# Altium integrated library AMCC PowerPC 405.IntLib: 46 symbols (part 6 of 12)
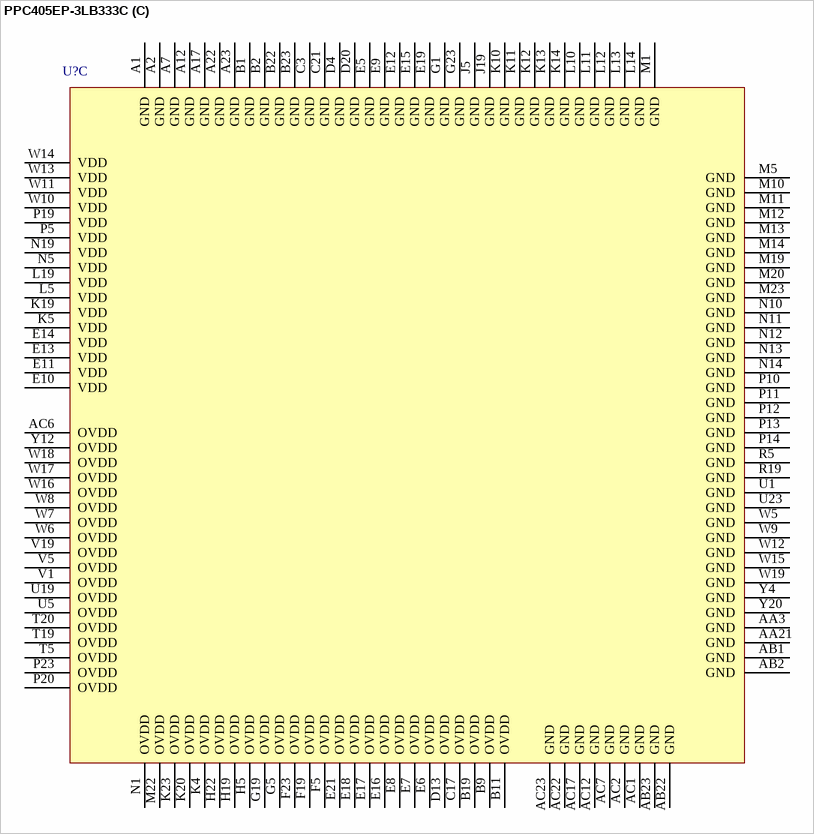
[diagram p123: symbol PPC405EP-3LB333C]

## PPC405EP-3LB333C
designator U?
PowerPC 405EP Embedded Processor, 333MHz, 31mm, 385 Ball E-PBGA, Pb-Free; Published: 6-Oct-2005; LatestRevisionDate: 13-Apr-2006; LatestRevisionNote: IPC-7351 Footprint Added.; DatasheetVersion: rev1.02, Jan-2005; PackageVersion: Jan-2005; PackageReference: E-PBGA385; Publisher: Altium Limited; PackageDescription: 385-Ball Enhanced Plastic Ball Grid Array; ComponentLink1Description: Manufacturer Link; ComponentLink1URL: http://www.amcc.com/; ComponentLink2Description: Datasheet; ComponentLink2URL: https://www.amcc.com/MyAMCC/retrieveDocument/PowerPC/405EP/PPC405EP_DS2003__v1_02.pdf
footprint E-PBGA385 (BGA, 385-Leads, Body 31x31mm, Pitch 1.27mm)
3D model PPC405EP-E-PBGA385 (385-Ball Enhanced Plastic Ball Grid Array)
part A pins: A4 GPIO15[PerAddr04] (io), A5 GPIO16[PerAddr05] (io), A9 GPIO00[~{PerBLas}t] (io), A18 PCIC0/~{BE}0 (io), A19 PCIAD07 (io), A20 PCIAD10 (io), A21 PCIIDSel (in), AA1 TDI (in), AA2 TDO (out), AA7 DQM1 (out), AA15 ~{RA}S (out), AA23 GPIO01[TS1E] (io), AB4 IICSCL (io), AB13 ~{BankSel}0 (out), AB14 ClkEn0 (out), AB18 SysClk (in), AB20 ~{SysRese}t (io), AB21 AGND (in), AC3 TMS (in), AC10 DQM0 (out), AC13 ~{BankSel}1 (out), AC14 ClkEn1 (out), AC15 ~{WE} (out), AC16 BA1 (out), AC20 AVDD (in), B4 GPIO14[PerAddr03] (io), B16 PCIAD00 (io), B17 PCIAD02 (io), B18 PCIAD04 (io), B20 PCIAD11 (io), B21 PCIClk (in), C2 GPIO10[~{PerCS}1] (io), C16 PCIAD01 (io), C18 PCIAD06 (io), C19 PCIAD09 (io), C20 PCIAD12 (io), C22 ~{Hal}t (in), C23 PCIAD13 (io), D3 GPIO12[~{PerCS}3] (io), D5 GPIO13[~{PerCS}4] (io), D15 ~{PCIINT}[~{PerW}E] (out), D16 PCIAD03 (io), D17 PCIAD05 (io), D18 PCIAD08 (io), D19 PCIC1/~{BE}1 (io), D21 PCIAD14 (io), D22 PCIAD15 (io), D23 ~{PCIGnt}0/~{Re}q (out), E3 GPIO11[~{PerCS}2] (io), E20 ~{PCIReq0}/~{Gn}t (in), E22 ~{PCIReq}2 (in), E23 ~{PCIGnt}1 (out), F20 ~{PCIReq}1 (in), F21 ~{PCIGnt}2 (out), F22 ~{PCIFram}e (io), G20 ~{PCIRese}t (out), G21 ~{PCITRD}Y (io), G22 ~{PCISto}p (io), H2 ~{TRS}T (in), H20 ~{PCIIRD}Y (io), H21 ~{PCIDevSe}l (io), H23 ~{PCIPEr}r (io), J1 GPIO27[~{UART0_DT}R] (io), J2 GPIO28[UART1_Rx] (io), J3 GPIO29[UART1_Tx] (io), J20 ~{PCISEr}r (io), J21 PCIParity (io), J22 PCIAD16 (io), J23 PCIAD17 (io), K1 GPIO25[~{UART0_DS}R] (io), K21 PCIAD18 (io), K22 PCIAD19 (io), L4 GPIO26[~{UART0_R}I] (io), L20 PCIC2/~{BE}2 (io), L21 PCIAD20 (io), L22 PCIAD21 (io), L23 PCIAD22 (io), M4 GPIO24[~{UART0_DC}D] (io), M21 PCIAD23 (io), N2 ~{UART0_RT}S (out), N20 PCIC3/~{BE}3 (io), N21 PCIAD26 (io), N22 PCIAD25 (io), N23 PCIAD24 (io), P4 UART0_Tx (out), P21 PCIAD28 (io), P22 PCIAD27 (io), R20 GPIO22[IRQ5] (io), R21 PCIAD31 (io), R22 PCIAD30 (io), R23 PCIAD29 (io), T1 UART0_Rx (in), T3 ~{UART0_CT}S (in), T21 GPIO09[TrcClk] (io), T22 GPIO21[IRQ4] (io), T23 GPIO23[IRQ6] (io), U2 DQM3 (out), U20 GPIO05[TS3] (io), U21 GPIO07[TS5] (io), U22 GPIO08[TS6] (io), V20 ~{TestE}n (in), V21 GPIO19[IRQ2] (io), V22 GPIO20[IRQ3] (io), V23 GPIO06[TS4] (io), W4 DQM2 (out), W20 GPIO30[RejectPkt0] (io), W21 GPIO04[TS2O] (io), W22 GPIO17[IRQ0] (io), W23 GPIO18[IRQ1] (io), Y1 IICSDA (io), Y2 TCK (in), Y14 ~{CA}S (out), Y15 BA0 (out), Y17 SysErr (out), Y21 GPIO31[RejectPkt1] (io), Y22 GPIO02[TS2E] (io), Y23 GPIO03[TS1O] (io)
part B pins: A3 ~{ExtRese}t (out), A6 PerAddr08 (io), A8 PerAddr15 (io), A10 PerAddr21 (io), A11 PerAddr23 (io), A13 PerAddr27 (io), A14 PerAddr30 (io), A15 EMC0Tx1D2 (out), A16 EMC0Tx1En (out), AA4 MemData19 (io), AA5 EMCMDIO (io), AA6 MemData14 (io), AA8 MemData10 (io), AA9 PHY0CrS0 (in), AA10 MemData05 (io), AA11 MemData03 (io), AA12 MemData01 (io), AA13 PHY0Rx0D3 (in), AA14 MemClkOut0 (out), AA16 PHY0Rx0D2 (in), AA17 MemAddr03 (out), AA18 MemAddr05 (out), AA19 MemAddr09 (out), AA20 MemAddr11 (out), AA22 PHY0Rx0D1 (in), AB3 MemData20 (io), AB5 MemData16 (io), AB6 MemData12 (io), AB7 MemData11 (io), AB8 PHY0Col0 (in), AB9 MemData07 (io), AB10 PHY0Rx0Clk (in), AB11 PHY0Rx0Err (in), AB12 MemData00 (io), AB15 MemAddr00 (out), AB16 MemAddr01 (out), AB17 MemAddr02 (out), AB19 MemAddr07 (out), AC4 MemData17 (io), AC5 MemData15 (io), AC8 MemData08 (io), AC9 MemData06 (io), AC11 MemData02 (io), AC18 MemAddr04 (out), AC19 MemAddr06 (out), AC21 MemAddr12 (out), B3 PerReady (in), B5 PHY0CrS1 (in), B6 PerAddr07 (io), B7 PerAddr11 (io), B8 PerAddr13 (io), B10 PerAddr19 (io), B12 PerAddr25 (io), B13 PerAddr28 (io), B14 PerAddr31 (io), B15 EMC0Tx1D0 (out), C1 PHY0Rx1Err (in), C4 PerClk (out), C5 PHY0Col1 (in), C6 PHY0Tx1Clk (in), C7 PerAddr10 (io), C8 PerAddr12 (io), C9 PerAddr16 (io), C10 PerAddr18 (io), C11 PerAddr22 (io), C12 PerAddr26 (io), C13 PerAddr29 (io), C14 EMC0Tx1D1 (out), C15 EMC0Tx1Err (out), D1 PerData15 (io), D2 PerR/~{W} (out), D6 PHY0Rx1DV (in), D7 PerAddr06 (io), D8 PerAddr09 (io), D9 PerAddr14 (io), D10 PerAddr17 (io), D11 PerAddr20 (io), D12 PerAddr24 (io), D14 EMC0Tx1D3 (out), E1 ~{PerWBE}1 (out), E2 PHY0Rx1Clk (in), E4 ~{PerCS}0 (out), F1 PerData14 (io), F2 PHY0Rx1D3 (in), F3 ~{PerWBE}0 (out), F4 ~{PerO}E (out), G2 PerData11 (io), G3 PHY0Rx1D2 (in), G4 PerData12 (io), H1 PerData09 (io), H3 PHY0Rx1D1 (in), H4 PerData13 (io), J4 PerData10 (io), K2 PerData07 (io), K3 PerData08 (io), L1 EMC0Tx0D2 (out), L2 PerData05 (io), L3 PerData06 (io), M2 PerData03 (io), M3 PerData04 (io), N3 EMC0Tx0D1 (out), N4 PerData01 (io), P1 PerData02 (io), P2 PerData00 (io), P3 EMC0Tx0D3 (out), R1 PHY0Rx1D0 (in), R2 MemData31 (io), R3 MemData30 (io), R4 MemData29 (io), T2 MemData28 (io), T4 MemData27 (io), U3 EMC0Tx0D0 (out), U4 MemData25 (io), V2 MemData26 (io), V3 EMC0Tx0Err (out), V4 MemData23 (io), W1 EMC0Tx0En (out), W2 MemData24 (io), W3 MemData22 (io), Y3 MemData21 (io), Y5 MemData18 (io), Y6 EMCMDClk (out), Y7 MemData13 (io), Y8 PHY0Tx0Clk (in), Y9 MemData09 (io), Y10 PHY0Rx0DV (in), Y11 MemData04 (io), Y13 MemClkOut1 (out), Y16 PHY0Rx0D0 (in), Y18 MemAddr08 (out), Y19 MemAddr10 (out)
part C pins: A1 GND (power), A2 GND (power), A7 GND (power), A12 GND (power), A17 GND (power), A22 GND (power), A23 GND (power), AA3 GND (power), AA21 GND (power), AB1 GND (power), AB2 GND (power), AB22 GND (power), AB23 GND (power), AC1 GND (power), AC2 GND (power), AC6 OVDD (power), AC7 GND (power), AC12 GND (power), AC17 GND (power), AC22 GND (power), AC23 GND (power), B1 GND (power), B2 GND (power), B9 OVDD (power), B11 OVDD (power), B19 OVDD (power), B22 GND (power), B23 GND (power), C3 GND (power), C17 OVDD (power), C21 GND (power), D4 GND (power), D13 OVDD (power), D20 GND (power), E5 GND (power), E6 OVDD (power), E7 OVDD (power), E8 OVDD (power), E9 GND (power), E10 VDD (power), E11 VDD (power), E12 GND (power), E13 VDD (power), E14 VDD (power), E15 GND (power), E16 OVDD (power), E17 OVDD (power), E18 OVDD (power), E19 GND (power), E21 OVDD (power), F5 OVDD (power), F19 OVDD (power), F23 OVDD (power), G1 GND (power), G5 OVDD (power), G19 OVDD (power), G23 GND (power), H5 OVDD (power), H19 OVDD (power), H22 OVDD (power), J5 GND (power), J19 GND (power), K4 OVDD (power), K5 VDD (power), K10 GND (power) "Thermal Balls", K11 GND (power) "Thermal Balls", K12 GND (power) "Thermal Balls", K13 GND (power) "Thermal Balls", K14 GND (power) "Thermal Balls", K19 VDD (power), K20 OVDD (power), K23 OVDD (power), L5 VDD (power), L10 GND (power) "Thermal Balls", L11 GND (power) "Thermal Balls", L12 GND (power) "Thermal Balls", L13 GND (power) "Thermal Balls", L14 GND (power) "Thermal Balls", L19 VDD (power), M1 GND (power), M5 GND (power), M10 GND (power) "Thermal Balls", M11 GND (power) "Thermal Balls", M12 GND (power) "Thermal Balls", M13 GND (power) "Thermal Balls", M14 GND (power) "Thermal Balls", M19 GND (power), M20 GND (power), M22 OVDD (power), M23 GND (power), N1 OVDD (power), N5 VDD (power), N10 GND (power) "Thermal Balls", N11 GND (power) "Thermal Balls", N12 GND (power) "Thermal Balls", N13 GND (power) "Thermal Balls", N14 GND (power) "Thermal Balls", N19 VDD (power), P5 VDD (power), P10 GND (power) "Thermal Balls", P11 GND (power) "Thermal Balls", P12 GND (power) "Thermal Balls", P13 GND (power) "Thermal Balls", P14 GND (power) "Thermal Balls", P19 VDD (power), P20 OVDD (power), P23 OVDD (power), R5 GND (power), R19 GND (power), T5 OVDD (power), T19 OVDD (power), T20 OVDD (power), U1 GND (power), U5 OVDD (power), U19 OVDD (power), U23 GND (power), V1 OVDD (power), V5 OVDD (power), V19 OVDD (power), W5 GND (power), W6 OVDD (power), W7 OVDD (power), W8 OVDD (power), W9 GND (power), W10 VDD (power), W11 VDD (power), W12 GND (power), W13 VDD (power), W14 VDD (power), W15 GND (power), W16 OVDD (power), W17 OVDD (power), W18 OVDD (power), W19 GND (power), Y4 GND (power), Y12 OVDD (power), Y20 GND (power)

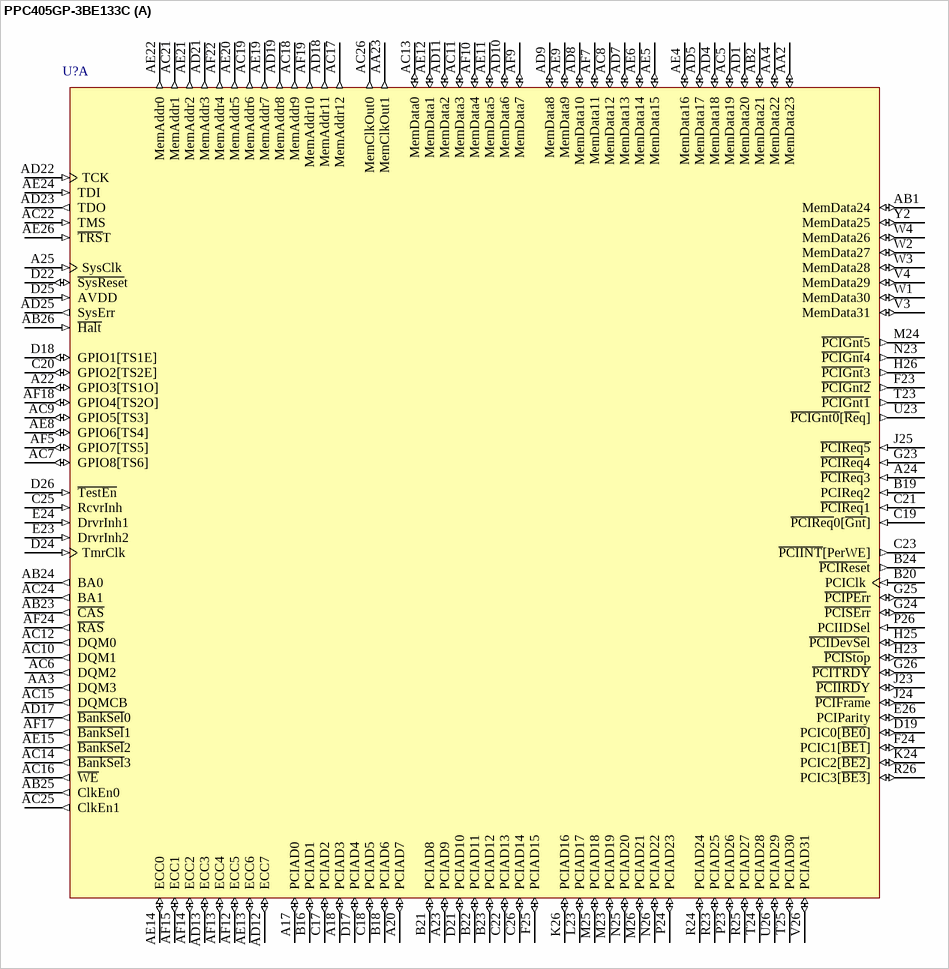
[diagram p41: symbol PPC405GP-3BE133C]

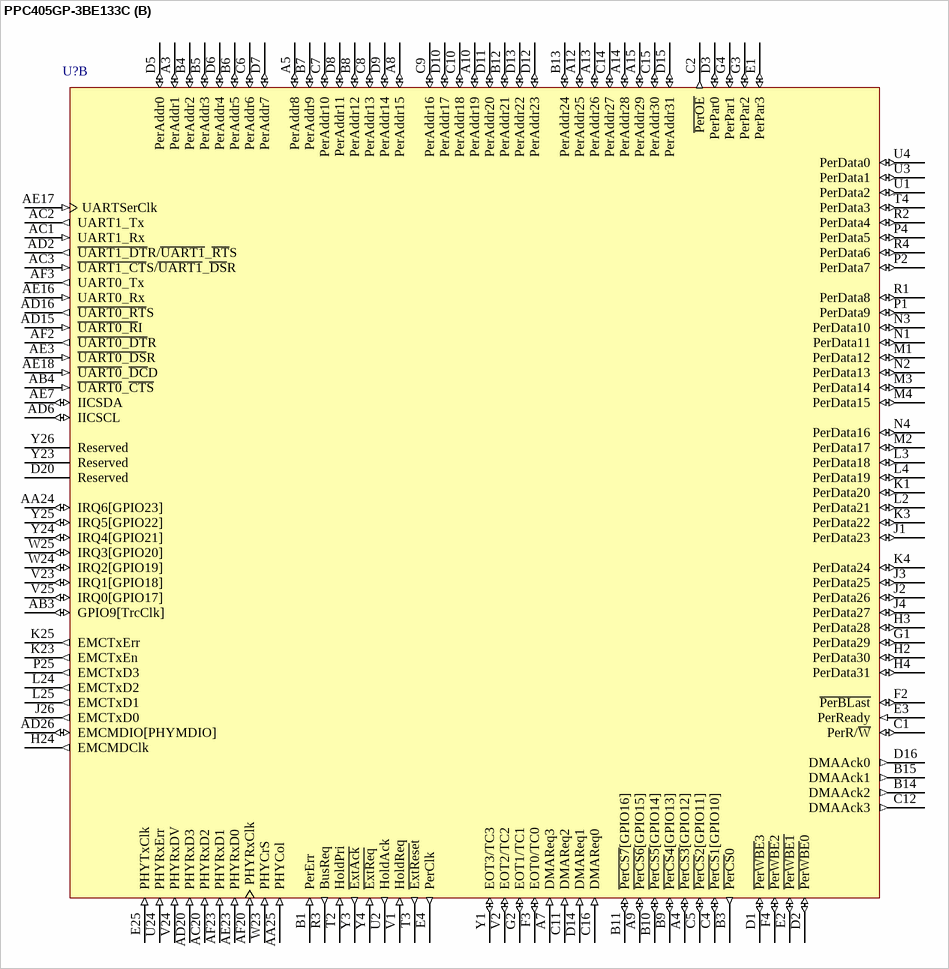
[diagram p42: symbol PPC405GP-3BE133C]

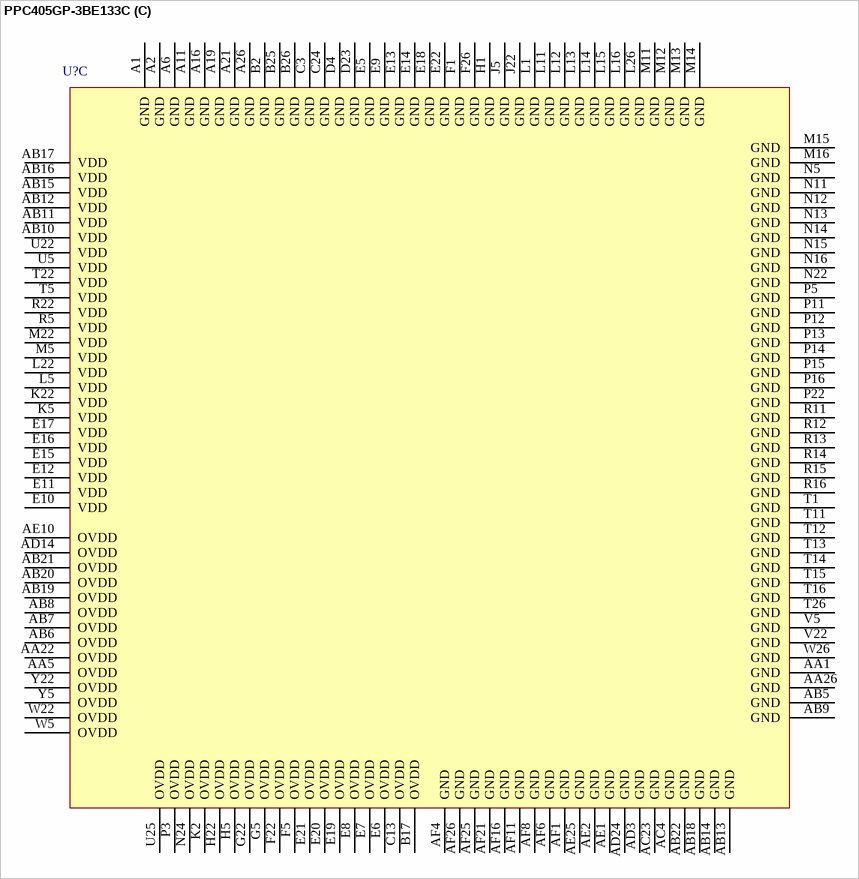
[diagram p43: symbol PPC405GP-3BE133C]

## PPC405GP-3BE133C
designator U?
PowerPC 405GP Embedded Processor, 133MHz, 35mm, 456 Ball E-PBGA; Published: 6-Oct-2005; LatestRevisionDate: 13-Apr-2006; LatestRevisionNote: IPC-7351 Footprint Added.; DatasheetVersion: rev2.01, Jan-2005; PackageVersion: May-2006; PackageReference: E-PBGA456_75; Publisher: Altium Limited; PackageDescription: 456-Ball Enhanced Plastic Ball Grid Array (E-PBGA); ComponentLink1Description: Manufacturer Link; ComponentLink1URL: http://www.amcc.com/; ComponentLink2Description: Datasheet; ComponentLink2URL: https://www.amcc.com/MyAMCC/retrieveDocument/PowerPC/405GP_GPR/PPC405GP_DS2004__v2_01.pdf
footprint E-PBGA456_75 (BGA, 456-Leads, Body 35x35mm, Pitch 1.27mm)
3D model PPC405GP-E-PBGA456_75 (456-Ball Enhanced Plastic Ball Grid Array (E-PBGA))
part A pins: A17 PCIAD0 (io), A18 PCIAD3 (io), A20 PCIAD7 (io), A22 GPIO3[TS1O] (io), A23 PCIAD9 (io), A24 ~{PCIReq}3 (in), A25 SysClk (in), AA2 MemData23 (io), AA3 DQM3 (out), AA4 MemData22 (io), AA23 MemClkOut1 (out), AB1 MemData24 (io), AB2 MemData21 (io), AB23 ~{CAS} (out), AB24 BA0 (out), AB25 ClkEn0 (out), AB26 ~{Halt} (in), AC5 MemData19 (io), AC6 DQM2 (out), AC7 GPIO8[TS6] (io), AC8 MemData12 (io), AC9 GPIO5[TS3] (io), AC10 DQM1 (out), AC11 MemData3 (io), AC12 DQM0 (out), AC13 MemData0 (io), AC14 ~{BankSel}3 (out), AC15 DQMCB (out), AC16 ~{WE} (out), AC17 MemAddr12 (out), AC18 MemAddr9 (out), AC19 MemAddr6 (out), AC21 MemAddr1 (out), AC22 TMS (in), AC24 BA1 (out), AC25 ClkEn1 (out), AC26 MemClkOut0 (out), AD1 MemData20 (io), AD4 MemData18 (io), AD5 MemData17 (io), AD7 MemData13 (io), AD8 MemData10 (io), AD9 MemData8 (io), AD10 MemData6 (io), AD11 MemData2 (io), AD12 ECC7 (io), AD13 ECC3 (io), AD17 ~{BankSel}0 (out), AD18 MemAddr11 (out), AD19 MemAddr8 (out), AD21 MemAddr3 (out), AD22 TCK (in), AD23 TDO (out), AD25 SysErr (out), AE4 MemData16 (io), AE5 MemData15 (io), AE6 MemData14 (io), AE8 GPIO6[TS4] (io), AE9 MemData9 (io), AE11 MemData5 (io), AE12 MemData1 (io), AE13 ECC6 (io), AE14 ECC0 (io), AE15 ~{BankSel}2 (out), AE19 MemAddr7 (out), AE20 MemAddr5 (out), AE21 MemAddr2 (out), AE22 MemAddr0 (out), AE24 TDI (in), AE26 ~{TRS}T (in), AF5 GPIO7[TS5] (io), AF7 MemData11 (io), AF9 MemData7 (io), AF10 MemData4 (io), AF12 ECC5 (io), AF13 ECC4 (io), AF14 ECC2 (io), AF15 ECC1 (io), AF17 ~{BankSel}1 (out), AF18 GPIO4[TS2O] (io), AF19 MemAddr10 (out), AF22 MemAddr4 (out), AF24 ~{RAS} (out), B16 PCIAD1 (io), B18 PCIAD6 (io), B19 PCIReq2 (in), B20 PCIClk (in), B21 PCIAD8 (io), B22 PCIAD11 (io), B23 PCIAD12 (io), B24 ~{PCIRese}t (out), C17 PCIAD2 (io), C18 PCIAD5 (io), C19 ~{PCIReq}0[~{Gnt}] (in), C20 GPIO2[TS2E] (io), C21 ~{PCIReq}1 (in), C22 PCIAD13 (io), C23 ~{PCIINT}[PerWE] (out), C25 RcvrInh (in), C26 PCIAD14 (io), D17 PCIAD4 (io), D18 GPIO1[TS1E] (io), D19 PCIC0[~{BE0}] (io), D21 PCIAD10 (io), D22 ~{SysRese}t (io), D24 TmrClk (in), D25 AVDD (in), D26 ~{TestEn} (in), E23 DrvrInh2 (in), E24 DrvrInh1 (in), E26 PCIParity (io), F23 ~{PCIGnt2} (out), F24 PCIC1[~{BE1}] (io), F25 PCIAD15 (io), G23 ~{PCIReq}4 (in), G24 ~{PCISErr} (io), G25 ~{PCIPEr}r (io), G26 ~{PCITRDY} (io), H23 ~{PCISto}p (io), H25 ~{PCIDevSe}l (io), H26 ~{PCIGnt}3 (out), J23 ~{PCIIRD}Y (io), J24 ~{PCIFram}e (io), J25 ~{PCIReq5} (in), K24 PCIC2[~{BE2}] (io), K26 PCIAD16 (io), L23 PCIAD17 (io), M23 PCIAD19 (io), M24 ~{PCIGnt}5 (out), M25 PCIAD18 (io), M26 PCIAD21 (io), N23 ~{PCIGnt}4 (out), N25 PCIAD20 (io), N26 PCIAD22 (io), P23 PCIAD26 (io), P24 PCIAD23 (io), P26 PCIIDSel (in), R23 PCIAD25 (io), R24 PCIAD24 (io), R25 PCIAD27 (io), R26 PCIC3[~{BE3}] (io), T23 ~{PCIGnt1} (out), T24 PCIAD28 (io), T25 PCIAD30 (io), U23 ~{PCIGnt0}[~{Re}q] (out), U26 PCIAD29 (io), V3 MemData31 (io), V4 MemData29 (io), V26 PCIAD31 (io), W1 MemData30 (io), W2 MemData27 (io), W3 MemData28 (io), W4 MemData26 (io), Y2 MemData25 (io)
part B pins: A3 PerAddr1 (io), A4 ~{PerCS3}[GPIO12] (io), A5 PerAddr8 (io), A7 DMAReq3 (in), A8 PerAddr15 (io), A9 ~{PerCS6}[GPIO15] (io), A10 PerAddr19 (io), A12 PerAddr25 (io), A13 PerAddr26 (io), A14 PerAddr28 (io), A15 PerAddr29 (io), AA24 IRQ6[GPIO23] (io), AA25 PHYCol (in), AB3 GPIO9[TrcClk] (io), AB4 ~{UART0}_~{CTS} (in), AC1 UART1_Rx (in), AC2 UART1_Tx (out), AC3 ~{UART1_CT}S/~{UART1}_~{DS}R (in), AC20 PHYRxD2 (in), AD2 ~{UART1_DT}R/~{UART1}_~{RT}S (out), AD6 IICSCL (io), AD15 ~{UART0_R}I (in), AD16 ~{UART0_RT}S (out), AD20 PHYRxD3 (in), AD26 EMCMDIO[PHYMDIO] (io), AE3 ~{UART0_DS}R (in), AE7 IICSDA (io), AE16 UART0_Rx (in), AE17 UARTSerClk (in), AE18 ~{UART0}_~{DC}D (in), AE23 PHYRxD0 (in), AF2 ~{UART0_DT}R (out), AF3 UART0_Tx (out), AF20 PHYRxClk (in), AF23 PHYRxD1 (in), B1 PerErr (in), B3 ~{PerCS}0 (out), B4 PerAddr2 (io), B5 PerAddr3 (io), B6 PerAddr5 (io), B7 PerAddr9 (io), B8 PerAddr12 (io), B9 ~{PerCS}4[GPIO13] (io), B10 ~{PerCS5}[GPIO14] (io), B11 ~{PerCS7}[GPIO16] (io), B12 PerAddr21 (io), B13 PerAddr24 (io), B14 DMAAck2 (out), B15 DMAAck1 (out), C1 PerR/~{W} (io), C2 ~{PerOE} (out), C4 ~{PerCS}1[GPIO10] (io), C5 ~{PerCS}2[GPIO11] (io), C6 PerAddr6 (io), C7 PerAddr10 (io), C8 PerAddr13 (io), C9 PerAddr16 (io), C10 PerAddr18 (io), C11 DMAReq2 (in), C12 DMAAck3 (out), C14 PerAddr27 (io), C15 PerAddr30 (io), C16 DMAReq0 (in), D1 ~{PerWBE}3 (io), D2 ~{PerWBE}0 (io), D3 PerPar0 (io), D5 PerAddr0 (io), D6 PerAddr4 (io), D7 PerAddr7 (io), D8 PerAddr11 (io), D9 PerAddr14 (io), D10 PerAddr17 (io), D11 PerAddr20 (io), D12 PerAddr23 (io), D13 PerAddr22 (io), D14 DMAReq1 (in), D15 PerAddr31 (io), D16 DMAAck0 (out), D20 Reserved, E1 PerPar3 (io), E2 ~{PerWBE1} (io), E3 PerReady (in), E4 PerClk (out), E25 PHYTxClk (in), F2 ~{PerBLast} (io), F3 EOT0/TC0 (io), F4 ~{PerWBE}2 (io), G1 PerData29 (io), G2 EOT1/TC1 (io), G3 PerPar2 (io), G4 PerPar1 (io), H2 PerData30 (io), H3 PerData28 (io), H4 PerData31 (io), H24 EMCMDClk (out), J1 PerData23 (io), J2 PerData26 (io), J3 PerData25 (io), J4 PerData27 (io), J26 EMCTxD0 (out), K1 PerData20 (io), K3 PerData22 (io), K4 PerData24 (io), K23 EMCTxEn (out), K25 EMCTxErr (out), L2 PerData21 (io), L3 PerData18 (io), L4 PerData19 (io), L24 EMCTxD2 (out), L25 EMCTxD1 (out), M1 PerData12 (io), M2 PerData17 (io), M3 PerData14 (io), M4 PerData15 (io), N1 PerData11 (io), N2 PerData13 (io), N3 PerData10 (io), N4 PerData16 (io), P1 PerData9 (io), P2 PerData7 (io), P4 PerData5 (io), P25 EMCTxD3 (out), R1 PerData8 (io), R2 PerData4 (io), R3 BusReq (out), R4 PerData6 (io), T2 HoldPri (in), T3 ~{ExtRese}t (out), T4 PerData3 (io), U1 PerData2 (io), U2 HoldAck (out), U3 PerData1 (io), U4 PerData0 (io), U24 PHYRxErr (in), V1 HoldReq (in), V2 EOT2/TC2 (io), V23 IRQ1[GPIO18] (io), V24 PHYRxDV (in), V25 IRQ0[GPIO17] (io), W23 PHYCrS (in), W24 IRQ2[GPIO19] (io), W25 IRQ3[GPIO20] (io), Y1 EOT3/TC3 (io), Y3 ~{ExtAck} (out), Y4 ~{ExtReq} (in), Y23 Reserved, Y24 IRQ4[GPIO21] (io), Y25 IRQ5[GPIO22] (io), Y26 Reserved
part C pins: A1 GND (power), A2 GND (power), A6 GND (power), A11 GND (power), A16 GND (power), A19 GND (power), A21 GND (power), A26 GND (power), AA1 GND (power), AA5 OVDD (power), AA22 OVDD (power), AA26 GND (power), AB5 GND (power), AB6 OVDD (power), AB7 OVDD (power), AB8 OVDD (power), AB9 GND (power), AB10 VDD (power), AB11 VDD (power), AB12 VDD (power), AB13 GND (power), AB14 GND (power), AB15 VDD (power), AB16 VDD (power), AB17 VDD (power), AB18 GND (power), AB19 OVDD (power), AB20 OVDD (power), AB21 OVDD (power), AB22 GND (power), AC4 GND (power), AC23 GND (power), AD3 GND (power), AD14 OVDD (power), AD24 GND (power), AE1 GND (power), AE2 GND (power), AE10 OVDD (power), AE25 GND (power), AF1 GND (power), AF4 GND (power), AF6 GND (power), AF8 GND (power), AF11 GND (power), AF16 GND (power), AF21 GND (power), AF25 GND (power), AF26 GND (power), B2 GND (power), B17 OVDD (power), B25 GND (power), B26 GND (power), C3 GND (power), C13 OVDD (power), C24 GND (power), D4 GND (power), D23 GND (power), E5 GND (power), E6 OVDD (power), E7 OVDD (power), E8 OVDD (power), E9 GND (power), E10 VDD (power), E11 VDD (power), E12 VDD (power), E13 GND (power), E14 GND (power), E15 VDD (power), E16 VDD (power), E17 VDD (power), E18 GND (power), E19 OVDD (power), E20 OVDD (power), E21 OVDD (power), E22 GND (power), F1 GND (power), F5 OVDD (power), F22 OVDD (power), F26 GND (power), G5 OVDD (power), G22 OVDD (power), H1 GND (power), H5 OVDD (power), H22 OVDD (power), J5 GND (power), J22 GND (power), K2 OVDD (power), K5 VDD (power), K22 VDD (power), L1 GND (power), L5 VDD (power), L11 GND (power) "Thermal Balls", L12 GND (power) "Thermal Balls", L13 GND (power) "Thermal Balls", L14 GND (power) "Thermal Balls", L15 GND (power) "Thermal Balls", L16 GND (power) "Thermal Balls", L22 VDD (power), L26 GND (power), M5 VDD (power), M11 GND (power) "Thermal Balls", M12 GND (power) "Thermal Balls", M13 GND (power) "Thermal Balls", M14 GND (power) "Thermal Balls", M15 GND (power) "Thermal Balls", M16 GND (power) "Thermal Balls", M22 VDD (power), N5 GND (power), N11 GND (power) "Thermal Balls", N12 GND (power) "Thermal Balls", N13 GND (power) "Thermal Balls", N14 GND (power) "Thermal Balls", N15 GND (power) "Thermal Balls", N16 GND (power) "Thermal Balls", N22 GND (power), N24 OVDD (power), P3 OVDD (power), P5 GND (power), P11 GND (power) "Thermal Balls", P12 GND (power) "Thermal Balls", P13 GND (power) "Thermal Balls", P14 GND (power) "Thermal Balls", P15 GND (power) "Thermal Balls", P16 GND (power) "Thermal Balls", P22 GND (power), R5 VDD (power), R11 GND (power) "Thermal Balls", R12 GND (power) "Thermal Balls", R13 GND (power) "Thermal Balls", R14 GND (power) "Thermal Balls", R15 GND (power) "Thermal Balls", R16 GND (power) "Thermal Balls", R22 VDD (power), T1 GND (power), T5 VDD (power), T11 GND (power) "Thermal Balls", T12 GND (power) "Thermal Balls", T13 GND (power) "Thermal Balls", T14 GND (power) "Thermal Balls", T15 GND (power) "Thermal Balls", T16 GND (power) "Thermal Balls", T22 VDD (power), T26 GND (power), U5 VDD (power), U22 VDD (power), U25 OVDD (power), V5 GND (power), V22 GND (power), W5 OVDD (power), W22 OVDD (power), W26 GND (power), Y5 OVDD (power), Y22 OVDD (power)

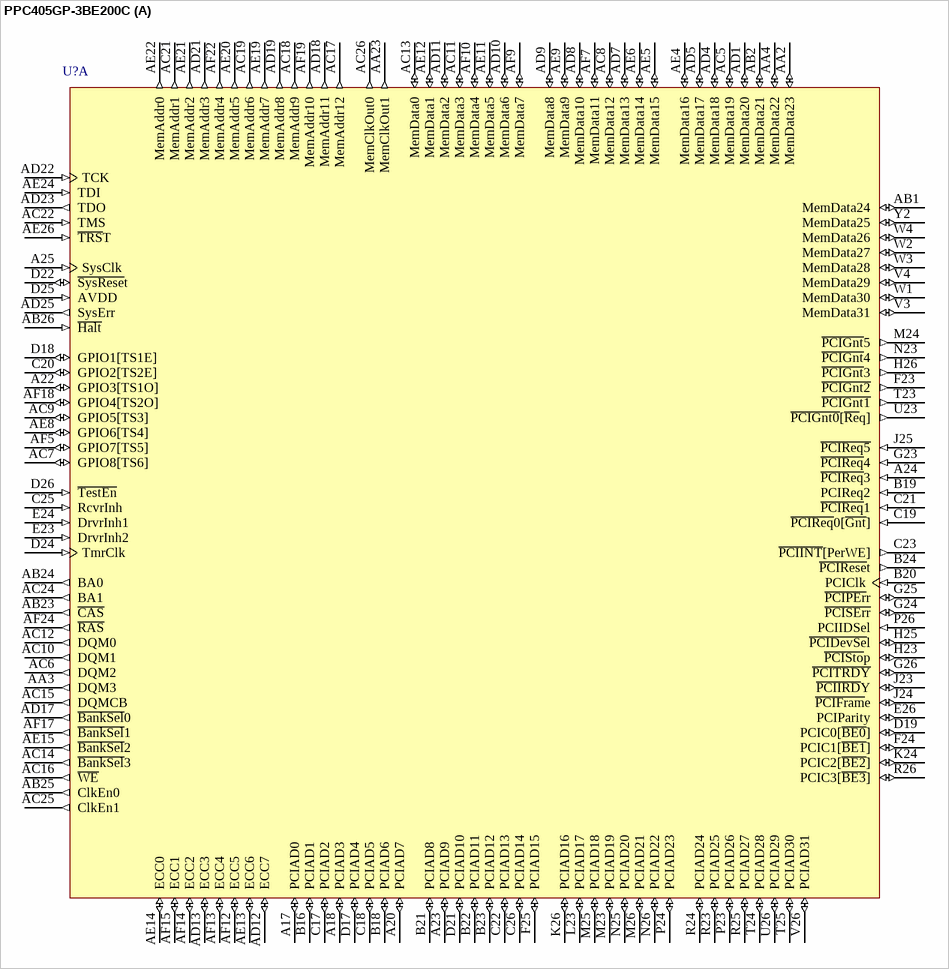
[diagram p44: symbol PPC405GP-3BE200C]

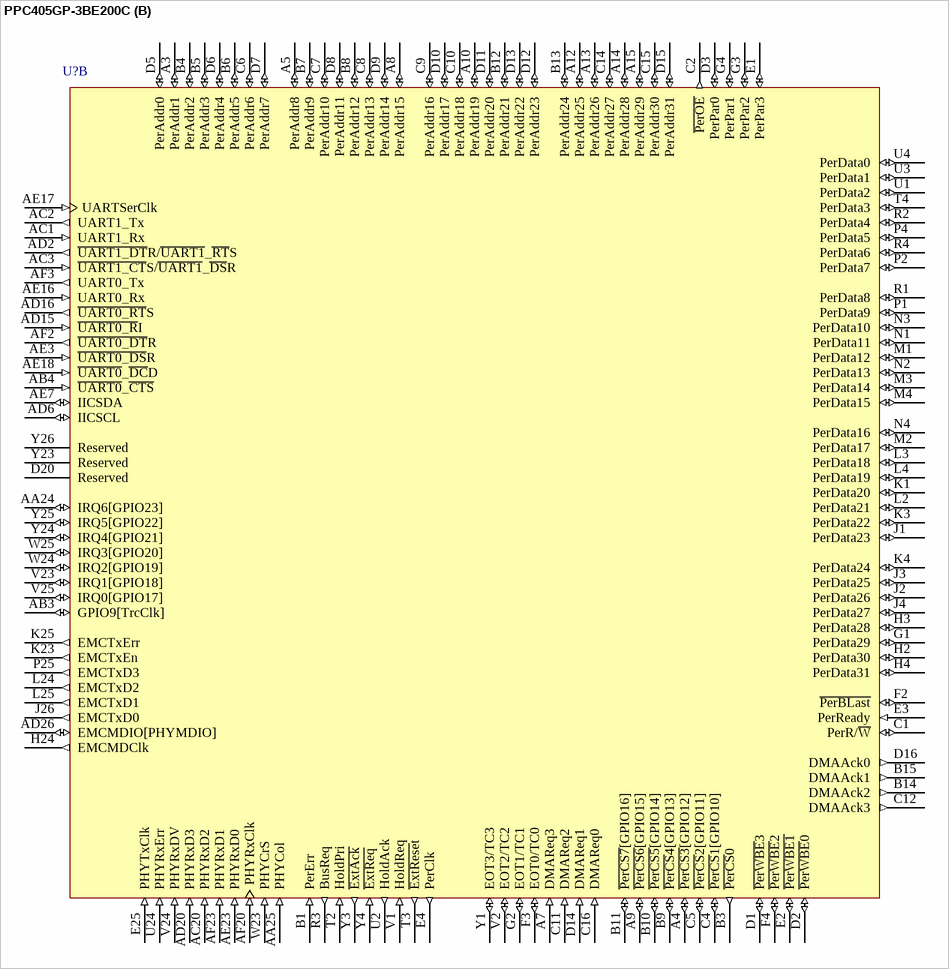
[diagram p45: symbol PPC405GP-3BE200C]

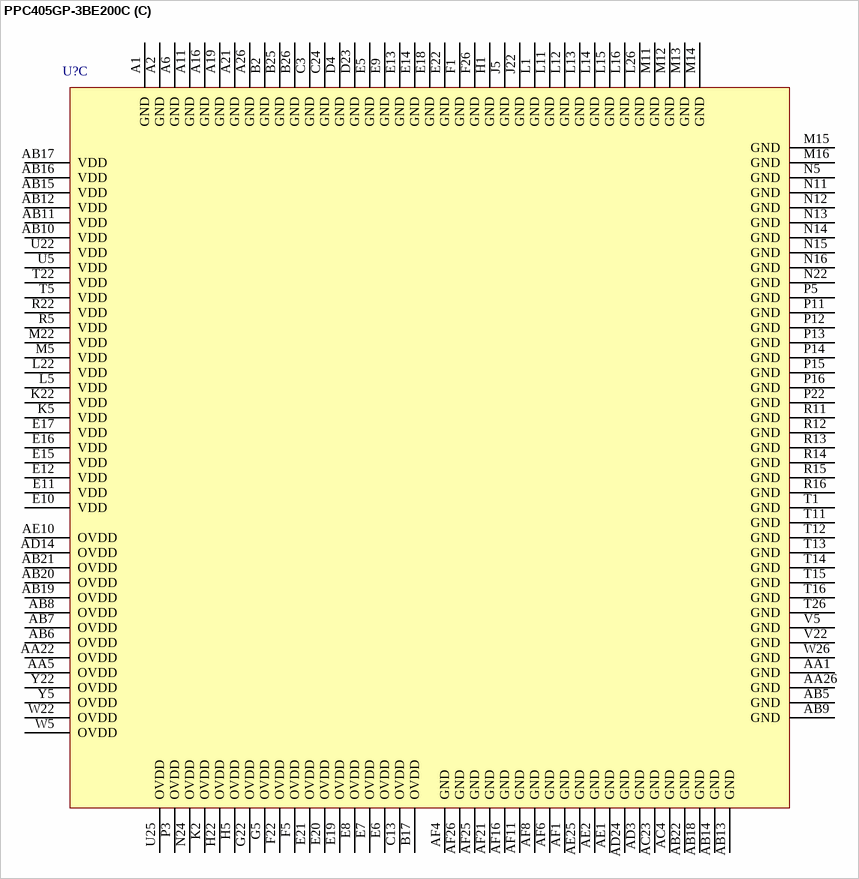
[diagram p46: symbol PPC405GP-3BE200C]

## PPC405GP-3BE200C
designator U?
PowerPC 405GP Embedded Processor, 200MHz, 35mm, 456 Ball E-PBGA; Published: 6-Oct-2005; LatestRevisionDate: 13-Apr-2006; LatestRevisionNote: IPC-7351 Footprint Added.; DatasheetVersion: rev2.01, Jan-2005; PackageVersion: May-2006; PackageReference: E-PBGA456_75; Publisher: Altium Limited; PackageDescription: 456-Ball Enhanced Plastic Ball Grid Array (E-PBGA); ComponentLink1Description: Manufacturer Link; ComponentLink1URL: http://www.amcc.com/; ComponentLink2Description: Datasheet; ComponentLink2URL: https://www.amcc.com/MyAMCC/retrieveDocument/PowerPC/405GP_GPR/PPC405GP_DS2004__v2_01.pdf
footprint E-PBGA456_75 (BGA, 456-Leads, Body 35x35mm, Pitch 1.27mm)
3D model PPC405GP-E-PBGA456_75 (456-Ball Enhanced Plastic Ball Grid Array (E-PBGA))
part A pins: A17 PCIAD0 (io), A18 PCIAD3 (io), A20 PCIAD7 (io), A22 GPIO3[TS1O] (io), A23 PCIAD9 (io), A24 ~{PCIReq}3 (in), A25 SysClk (in), AA2 MemData23 (io), AA3 DQM3 (out), AA4 MemData22 (io), AA23 MemClkOut1 (out), AB1 MemData24 (io), AB2 MemData21 (io), AB23 ~{CAS} (out), AB24 BA0 (out), AB25 ClkEn0 (out), AB26 ~{Halt} (in), AC5 MemData19 (io), AC6 DQM2 (out), AC7 GPIO8[TS6] (io), AC8 MemData12 (io), AC9 GPIO5[TS3] (io), AC10 DQM1 (out), AC11 MemData3 (io), AC12 DQM0 (out), AC13 MemData0 (io), AC14 ~{BankSel}3 (out), AC15 DQMCB (out), AC16 ~{WE} (out), AC17 MemAddr12 (out), AC18 MemAddr9 (out), AC19 MemAddr6 (out), AC21 MemAddr1 (out), AC22 TMS (in), AC24 BA1 (out), AC25 ClkEn1 (out), AC26 MemClkOut0 (out), AD1 MemData20 (io), AD4 MemData18 (io), AD5 MemData17 (io), AD7 MemData13 (io), AD8 MemData10 (io), AD9 MemData8 (io), AD10 MemData6 (io), AD11 MemData2 (io), AD12 ECC7 (io), AD13 ECC3 (io), AD17 ~{BankSel}0 (out), AD18 MemAddr11 (out), AD19 MemAddr8 (out), AD21 MemAddr3 (out), AD22 TCK (in), AD23 TDO (out), AD25 SysErr (out), AE4 MemData16 (io), AE5 MemData15 (io), AE6 MemData14 (io), AE8 GPIO6[TS4] (io), AE9 MemData9 (io), AE11 MemData5 (io), AE12 MemData1 (io), AE13 ECC6 (io), AE14 ECC0 (io), AE15 ~{BankSel}2 (out), AE19 MemAddr7 (out), AE20 MemAddr5 (out), AE21 MemAddr2 (out), AE22 MemAddr0 (out), AE24 TDI (in), AE26 ~{TRS}T (in), AF5 GPIO7[TS5] (io), AF7 MemData11 (io), AF9 MemData7 (io), AF10 MemData4 (io), AF12 ECC5 (io), AF13 ECC4 (io), AF14 ECC2 (io), AF15 ECC1 (io), AF17 ~{BankSel}1 (out), AF18 GPIO4[TS2O] (io), AF19 MemAddr10 (out), AF22 MemAddr4 (out), AF24 ~{RAS} (out), B16 PCIAD1 (io), B18 PCIAD6 (io), B19 PCIReq2 (in), B20 PCIClk (in), B21 PCIAD8 (io), B22 PCIAD11 (io), B23 PCIAD12 (io), B24 ~{PCIRese}t (out), C17 PCIAD2 (io), C18 PCIAD5 (io), C19 ~{PCIReq}0[~{Gnt}] (in), C20 GPIO2[TS2E] (io), C21 ~{PCIReq}1 (in), C22 PCIAD13 (io), C23 ~{PCIINT}[PerWE] (out), C25 RcvrInh (in), C26 PCIAD14 (io), D17 PCIAD4 (io), D18 GPIO1[TS1E] (io), D19 PCIC0[~{BE0}] (io), D21 PCIAD10 (io), D22 ~{SysRese}t (io), D24 TmrClk (in), D25 AVDD (in), D26 ~{TestEn} (in), E23 DrvrInh2 (in), E24 DrvrInh1 (in), E26 PCIParity (io), F23 ~{PCIGnt2} (out), F24 PCIC1[~{BE1}] (io), F25 PCIAD15 (io), G23 ~{PCIReq}4 (in), G24 ~{PCISErr} (io), G25 ~{PCIPEr}r (io), G26 ~{PCITRDY} (io), H23 ~{PCISto}p (io), H25 ~{PCIDevSe}l (io), H26 ~{PCIGnt}3 (out), J23 ~{PCIIRD}Y (io), J24 ~{PCIFram}e (io), J25 ~{PCIReq5} (in), K24 PCIC2[~{BE2}] (io), K26 PCIAD16 (io), L23 PCIAD17 (io), M23 PCIAD19 (io), M24 ~{PCIGnt}5 (out), M25 PCIAD18 (io), M26 PCIAD21 (io), N23 ~{PCIGnt}4 (out), N25 PCIAD20 (io), N26 PCIAD22 (io), P23 PCIAD26 (io), P24 PCIAD23 (io), P26 PCIIDSel (in), R23 PCIAD25 (io), R24 PCIAD24 (io), R25 PCIAD27 (io), R26 PCIC3[~{BE3}] (io), T23 ~{PCIGnt1} (out), T24 PCIAD28 (io), T25 PCIAD30 (io), U23 ~{PCIGnt0}[~{Re}q] (out), U26 PCIAD29 (io), V3 MemData31 (io), V4 MemData29 (io), V26 PCIAD31 (io), W1 MemData30 (io), W2 MemData27 (io), W3 MemData28 (io), W4 MemData26 (io), Y2 MemData25 (io)
part B pins: A3 PerAddr1 (io), A4 ~{PerCS3}[GPIO12] (io), A5 PerAddr8 (io), A7 DMAReq3 (in), A8 PerAddr15 (io), A9 ~{PerCS6}[GPIO15] (io), A10 PerAddr19 (io), A12 PerAddr25 (io), A13 PerAddr26 (io), A14 PerAddr28 (io), A15 PerAddr29 (io), AA24 IRQ6[GPIO23] (io), AA25 PHYCol (in), AB3 GPIO9[TrcClk] (io), AB4 ~{UART0}_~{CTS} (in), AC1 UART1_Rx (in), AC2 UART1_Tx (out), AC3 ~{UART1_CT}S/~{UART1}_~{DS}R (in), AC20 PHYRxD2 (in), AD2 ~{UART1_DT}R/~{UART1}_~{RT}S (out), AD6 IICSCL (io), AD15 ~{UART0_R}I (in), AD16 ~{UART0_RT}S (out), AD20 PHYRxD3 (in), AD26 EMCMDIO[PHYMDIO] (io), AE3 ~{UART0_DS}R (in), AE7 IICSDA (io), AE16 UART0_Rx (in), AE17 UARTSerClk (in), AE18 ~{UART0}_~{DC}D (in), AE23 PHYRxD0 (in), AF2 ~{UART0_DT}R (out), AF3 UART0_Tx (out), AF20 PHYRxClk (in), AF23 PHYRxD1 (in), B1 PerErr (in), B3 ~{PerCS}0 (out), B4 PerAddr2 (io), B5 PerAddr3 (io), B6 PerAddr5 (io), B7 PerAddr9 (io), B8 PerAddr12 (io), B9 ~{PerCS}4[GPIO13] (io), B10 ~{PerCS5}[GPIO14] (io), B11 ~{PerCS7}[GPIO16] (io), B12 PerAddr21 (io), B13 PerAddr24 (io), B14 DMAAck2 (out), B15 DMAAck1 (out), C1 PerR/~{W} (io), C2 ~{PerOE} (out), C4 ~{PerCS}1[GPIO10] (io), C5 ~{PerCS}2[GPIO11] (io), C6 PerAddr6 (io), C7 PerAddr10 (io), C8 PerAddr13 (io), C9 PerAddr16 (io), C10 PerAddr18 (io), C11 DMAReq2 (in), C12 DMAAck3 (out), C14 PerAddr27 (io), C15 PerAddr30 (io), C16 DMAReq0 (in), D1 ~{PerWBE}3 (io), D2 ~{PerWBE}0 (io), D3 PerPar0 (io), D5 PerAddr0 (io), D6 PerAddr4 (io), D7 PerAddr7 (io), D8 PerAddr11 (io), D9 PerAddr14 (io), D10 PerAddr17 (io), D11 PerAddr20 (io), D12 PerAddr23 (io), D13 PerAddr22 (io), D14 DMAReq1 (in), D15 PerAddr31 (io), D16 DMAAck0 (out), D20 Reserved, E1 PerPar3 (io), E2 ~{PerWBE1} (io), E3 PerReady (in), E4 PerClk (out), E25 PHYTxClk (in), F2 ~{PerBLast} (io), F3 EOT0/TC0 (io), F4 ~{PerWBE}2 (io), G1 PerData29 (io), G2 EOT1/TC1 (io), G3 PerPar2 (io), G4 PerPar1 (io), H2 PerData30 (io), H3 PerData28 (io), H4 PerData31 (io), H24 EMCMDClk (out), J1 PerData23 (io), J2 PerData26 (io), J3 PerData25 (io), J4 PerData27 (io), J26 EMCTxD0 (out), K1 PerData20 (io), K3 PerData22 (io), K4 PerData24 (io), K23 EMCTxEn (out), K25 EMCTxErr (out), L2 PerData21 (io), L3 PerData18 (io), L4 PerData19 (io), L24 EMCTxD2 (out), L25 EMCTxD1 (out), M1 PerData12 (io), M2 PerData17 (io), M3 PerData14 (io), M4 PerData15 (io), N1 PerData11 (io), N2 PerData13 (io), N3 PerData10 (io), N4 PerData16 (io), P1 PerData9 (io), P2 PerData7 (io), P4 PerData5 (io), P25 EMCTxD3 (out), R1 PerData8 (io), R2 PerData4 (io), R3 BusReq (out), R4 PerData6 (io), T2 HoldPri (in), T3 ~{ExtRese}t (out), T4 PerData3 (io), U1 PerData2 (io), U2 HoldAck (out), U3 PerData1 (io), U4 PerData0 (io), U24 PHYRxErr (in), V1 HoldReq (in), V2 EOT2/TC2 (io), V23 IRQ1[GPIO18] (io), V24 PHYRxDV (in), V25 IRQ0[GPIO17] (io), W23 PHYCrS (in), W24 IRQ2[GPIO19] (io), W25 IRQ3[GPIO20] (io), Y1 EOT3/TC3 (io), Y3 ~{ExtAck} (out), Y4 ~{ExtReq} (in), Y23 Reserved, Y24 IRQ4[GPIO21] (io), Y25 IRQ5[GPIO22] (io), Y26 Reserved
part C pins: A1 GND (power), A2 GND (power), A6 GND (power), A11 GND (power), A16 GND (power), A19 GND (power), A21 GND (power), A26 GND (power), AA1 GND (power), AA5 OVDD (power), AA22 OVDD (power), AA26 GND (power), AB5 GND (power), AB6 OVDD (power), AB7 OVDD (power), AB8 OVDD (power), AB9 GND (power), AB10 VDD (power), AB11 VDD (power), AB12 VDD (power), AB13 GND (power), AB14 GND (power), AB15 VDD (power), AB16 VDD (power), AB17 VDD (power), AB18 GND (power), AB19 OVDD (power), AB20 OVDD (power), AB21 OVDD (power), AB22 GND (power), AC4 GND (power), AC23 GND (power), AD3 GND (power), AD14 OVDD (power), AD24 GND (power), AE1 GND (power), AE2 GND (power), AE10 OVDD (power), AE25 GND (power), AF1 GND (power), AF4 GND (power), AF6 GND (power), AF8 GND (power), AF11 GND (power), AF16 GND (power), AF21 GND (power), AF25 GND (power), AF26 GND (power), B2 GND (power), B17 OVDD (power), B25 GND (power), B26 GND (power), C3 GND (power), C13 OVDD (power), C24 GND (power), D4 GND (power), D23 GND (power), E5 GND (power), E6 OVDD (power), E7 OVDD (power), E8 OVDD (power), E9 GND (power), E10 VDD (power), E11 VDD (power), E12 VDD (power), E13 GND (power), E14 GND (power), E15 VDD (power), E16 VDD (power), E17 VDD (power), E18 GND (power), E19 OVDD (power), E20 OVDD (power), E21 OVDD (power), E22 GND (power), F1 GND (power), F5 OVDD (power), F22 OVDD (power), F26 GND (power), G5 OVDD (power), G22 OVDD (power), H1 GND (power), H5 OVDD (power), H22 OVDD (power), J5 GND (power), J22 GND (power), K2 OVDD (power), K5 VDD (power), K22 VDD (power), L1 GND (power), L5 VDD (power), L11 GND (power) "Thermal Balls", L12 GND (power) "Thermal Balls", L13 GND (power) "Thermal Balls", L14 GND (power) "Thermal Balls", L15 GND (power) "Thermal Balls", L16 GND (power) "Thermal Balls", L22 VDD (power), L26 GND (power), M5 VDD (power), M11 GND (power) "Thermal Balls", M12 GND (power) "Thermal Balls", M13 GND (power) "Thermal Balls", M14 GND (power) "Thermal Balls", M15 GND (power) "Thermal Balls", M16 GND (power) "Thermal Balls", M22 VDD (power), N5 GND (power), N11 GND (power) "Thermal Balls", N12 GND (power) "Thermal Balls", N13 GND (power) "Thermal Balls", N14 GND (power) "Thermal Balls", N15 GND (power) "Thermal Balls", N16 GND (power) "Thermal Balls", N22 GND (power), N24 OVDD (power), P3 OVDD (power), P5 GND (power), P11 GND (power) "Thermal Balls", P12 GND (power) "Thermal Balls", P13 GND (power) "Thermal Balls", P14 GND (power) "Thermal Balls", P15 GND (power) "Thermal Balls", P16 GND (power) "Thermal Balls", P22 GND (power), R5 VDD (power), R11 GND (power) "Thermal Balls", R12 GND (power) "Thermal Balls", R13 GND (power) "Thermal Balls", R14 GND (power) "Thermal Balls", R15 GND (power) "Thermal Balls", R16 GND (power) "Thermal Balls", R22 VDD (power), T1 GND (power), T5 VDD (power), T11 GND (power) "Thermal Balls", T12 GND (power) "Thermal Balls", T13 GND (power) "Thermal Balls", T14 GND (power) "Thermal Balls", T15 GND (power) "Thermal Balls", T16 GND (power) "Thermal Balls", T22 VDD (power), T26 GND (power), U5 VDD (power), U22 VDD (power), U25 OVDD (power), V5 GND (power), V22 GND (power), W5 OVDD (power), W22 OVDD (power), W26 GND (power), Y5 OVDD (power), Y22 OVDD (power)

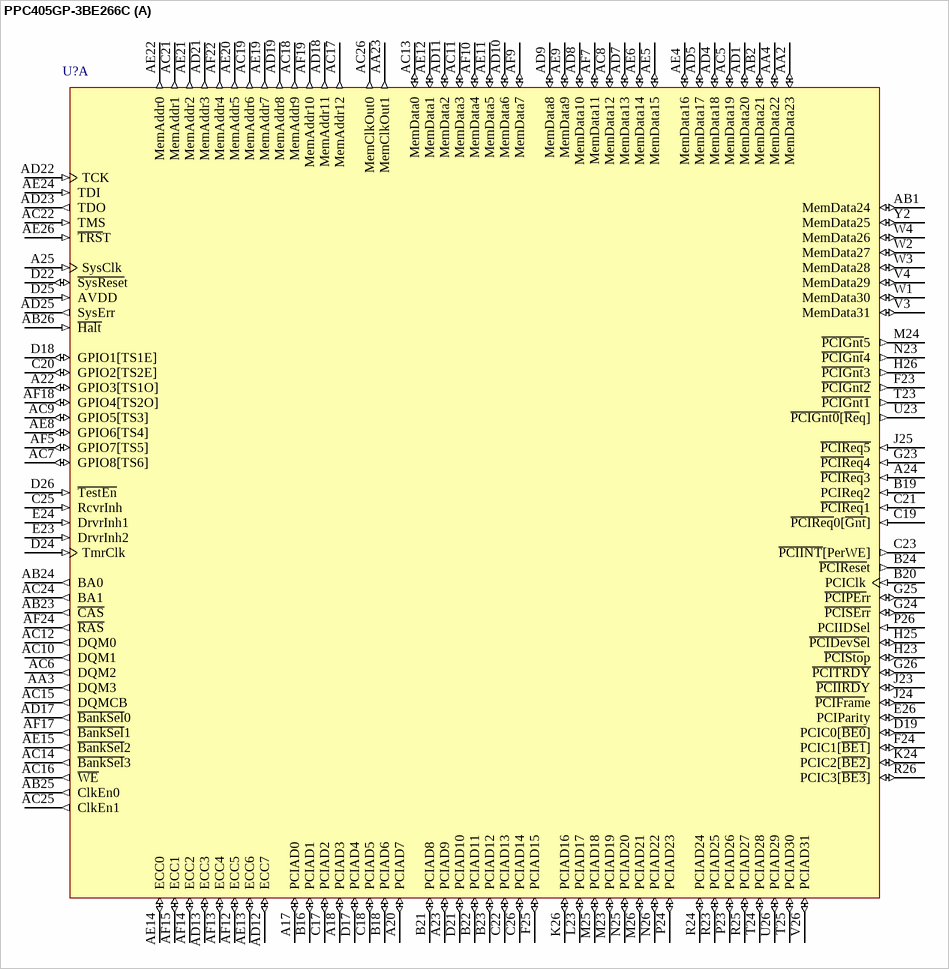
[diagram p47: symbol PPC405GP-3BE266C]

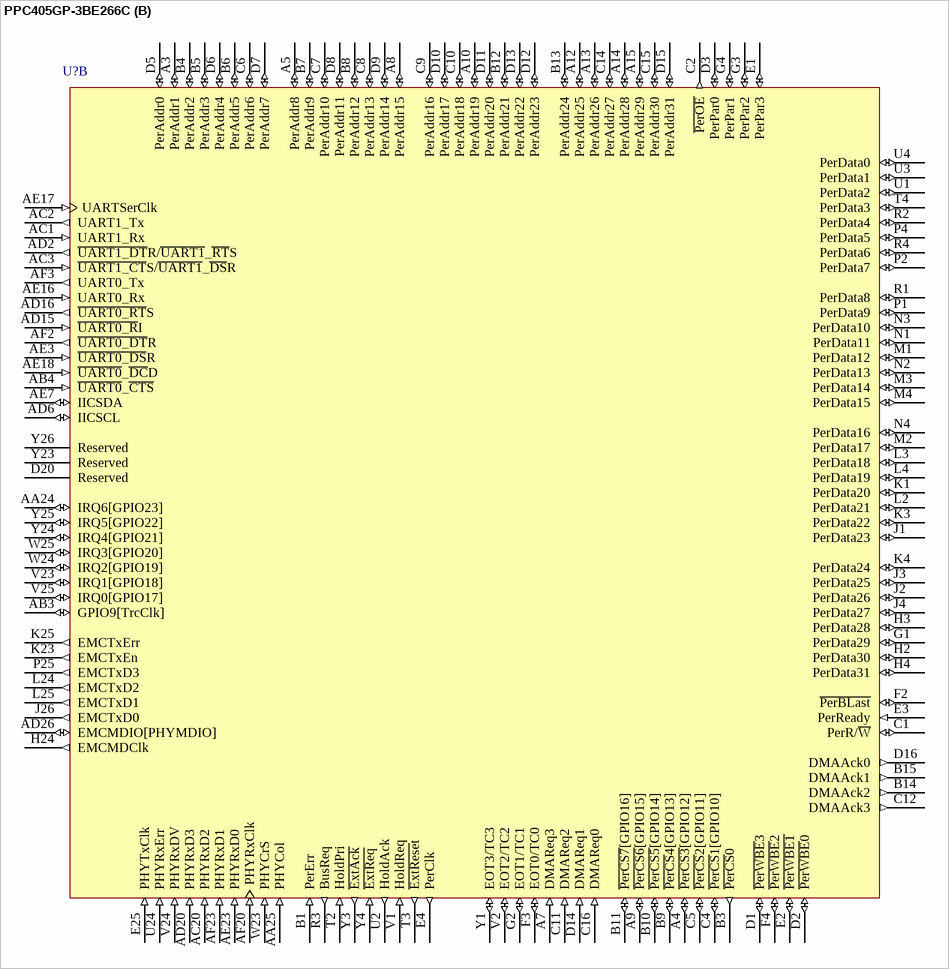
[diagram p48: symbol PPC405GP-3BE266C]

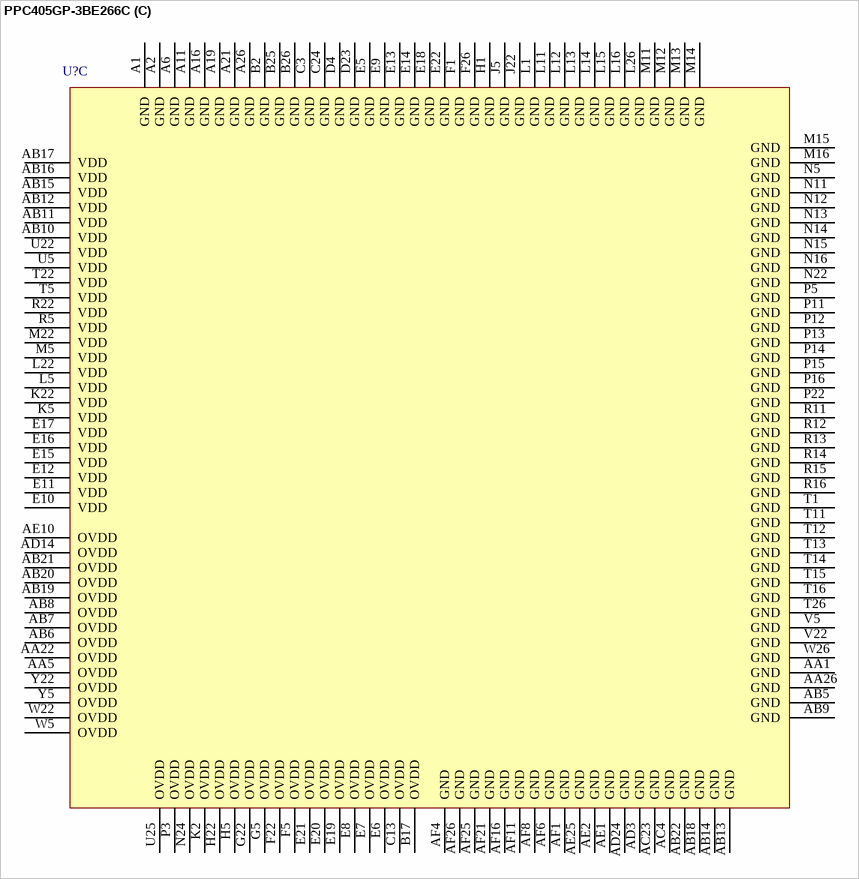
[diagram p49: symbol PPC405GP-3BE266C]

## PPC405GP-3BE266C
designator U?
PowerPC 405GP Embedded Processor, 266MHz, 35mm, 456 Ball E-PBGA; Published: 6-Oct-2005; LatestRevisionDate: 13-Apr-2006; LatestRevisionNote: IPC-7351 Footprint Added.; DatasheetVersion: rev2.01, Jan-2005; PackageVersion: May-2006; PackageReference: E-PBGA456_75; Publisher: Altium Limited; PackageDescription: 456-Ball Enhanced Plastic Ball Grid Array (E-PBGA); ComponentLink1Description: Manufacturer Link; ComponentLink1URL: http://www.amcc.com/; ComponentLink2Description: Datasheet; ComponentLink2URL: https://www.amcc.com/MyAMCC/retrieveDocument/PowerPC/405GP_GPR/PPC405GP_DS2004__v2_01.pdf
footprint E-PBGA456_75 (BGA, 456-Leads, Body 35x35mm, Pitch 1.27mm)
3D model PPC405GP-E-PBGA456_75 (456-Ball Enhanced Plastic Ball Grid Array (E-PBGA))
part A pins: A17 PCIAD0 (io), A18 PCIAD3 (io), A20 PCIAD7 (io), A22 GPIO3[TS1O] (io), A23 PCIAD9 (io), A24 ~{PCIReq}3 (in), A25 SysClk (in), AA2 MemData23 (io), AA3 DQM3 (out), AA4 MemData22 (io), AA23 MemClkOut1 (out), AB1 MemData24 (io), AB2 MemData21 (io), AB23 ~{CAS} (out), AB24 BA0 (out), AB25 ClkEn0 (out), AB26 ~{Halt} (in), AC5 MemData19 (io), AC6 DQM2 (out), AC7 GPIO8[TS6] (io), AC8 MemData12 (io), AC9 GPIO5[TS3] (io), AC10 DQM1 (out), AC11 MemData3 (io), AC12 DQM0 (out), AC13 MemData0 (io), AC14 ~{BankSel}3 (out), AC15 DQMCB (out), AC16 ~{WE} (out), AC17 MemAddr12 (out), AC18 MemAddr9 (out), AC19 MemAddr6 (out), AC21 MemAddr1 (out), AC22 TMS (in), AC24 BA1 (out), AC25 ClkEn1 (out), AC26 MemClkOut0 (out), AD1 MemData20 (io), AD4 MemData18 (io), AD5 MemData17 (io), AD7 MemData13 (io), AD8 MemData10 (io), AD9 MemData8 (io), AD10 MemData6 (io), AD11 MemData2 (io), AD12 ECC7 (io), AD13 ECC3 (io), AD17 ~{BankSel}0 (out), AD18 MemAddr11 (out), AD19 MemAddr8 (out), AD21 MemAddr3 (out), AD22 TCK (in), AD23 TDO (out), AD25 SysErr (out), AE4 MemData16 (io), AE5 MemData15 (io), AE6 MemData14 (io), AE8 GPIO6[TS4] (io), AE9 MemData9 (io), AE11 MemData5 (io), AE12 MemData1 (io), AE13 ECC6 (io), AE14 ECC0 (io), AE15 ~{BankSel}2 (out), AE19 MemAddr7 (out), AE20 MemAddr5 (out), AE21 MemAddr2 (out), AE22 MemAddr0 (out), AE24 TDI (in), AE26 ~{TRS}T (in), AF5 GPIO7[TS5] (io), AF7 MemData11 (io), AF9 MemData7 (io), AF10 MemData4 (io), AF12 ECC5 (io), AF13 ECC4 (io), AF14 ECC2 (io), AF15 ECC1 (io), AF17 ~{BankSel}1 (out), AF18 GPIO4[TS2O] (io), AF19 MemAddr10 (out), AF22 MemAddr4 (out), AF24 ~{RAS} (out), B16 PCIAD1 (io), B18 PCIAD6 (io), B19 PCIReq2 (in), B20 PCIClk (in), B21 PCIAD8 (io), B22 PCIAD11 (io), B23 PCIAD12 (io), B24 ~{PCIRese}t (out), C17 PCIAD2 (io), C18 PCIAD5 (io), C19 ~{PCIReq}0[~{Gnt}] (in), C20 GPIO2[TS2E] (io), C21 ~{PCIReq}1 (in), C22 PCIAD13 (io), C23 ~{PCIINT}[PerWE] (out), C25 RcvrInh (in), C26 PCIAD14 (io), D17 PCIAD4 (io), D18 GPIO1[TS1E] (io), D19 PCIC0[~{BE0}] (io), D21 PCIAD10 (io), D22 ~{SysRese}t (io), D24 TmrClk (in), D25 AVDD (in), D26 ~{TestEn} (in), E23 DrvrInh2 (in), E24 DrvrInh1 (in), E26 PCIParity (io), F23 ~{PCIGnt2} (out), F24 PCIC1[~{BE1}] (io), F25 PCIAD15 (io), G23 ~{PCIReq}4 (in), G24 ~{PCISErr} (io), G25 ~{PCIPEr}r (io), G26 ~{PCITRDY} (io), H23 ~{PCISto}p (io), H25 ~{PCIDevSe}l (io), H26 ~{PCIGnt}3 (out), J23 ~{PCIIRD}Y (io), J24 ~{PCIFram}e (io), J25 ~{PCIReq5} (in), K24 PCIC2[~{BE2}] (io), K26 PCIAD16 (io), L23 PCIAD17 (io), M23 PCIAD19 (io), M24 ~{PCIGnt}5 (out), M25 PCIAD18 (io), M26 PCIAD21 (io), N23 ~{PCIGnt}4 (out), N25 PCIAD20 (io), N26 PCIAD22 (io), P23 PCIAD26 (io), P24 PCIAD23 (io), P26 PCIIDSel (in), R23 PCIAD25 (io), R24 PCIAD24 (io), R25 PCIAD27 (io), R26 PCIC3[~{BE3}] (io), T23 ~{PCIGnt1} (out), T24 PCIAD28 (io), T25 PCIAD30 (io), U23 ~{PCIGnt0}[~{Re}q] (out), U26 PCIAD29 (io), V3 MemData31 (io), V4 MemData29 (io), V26 PCIAD31 (io), W1 MemData30 (io), W2 MemData27 (io), W3 MemData28 (io), W4 MemData26 (io), Y2 MemData25 (io)
part B pins: A3 PerAddr1 (io), A4 ~{PerCS3}[GPIO12] (io), A5 PerAddr8 (io), A7 DMAReq3 (in), A8 PerAddr15 (io), A9 ~{PerCS6}[GPIO15] (io), A10 PerAddr19 (io), A12 PerAddr25 (io), A13 PerAddr26 (io), A14 PerAddr28 (io), A15 PerAddr29 (io), AA24 IRQ6[GPIO23] (io), AA25 PHYCol (in), AB3 GPIO9[TrcClk] (io), AB4 ~{UART0}_~{CTS} (in), AC1 UART1_Rx (in), AC2 UART1_Tx (out), AC3 ~{UART1_CT}S/~{UART1}_~{DS}R (in), AC20 PHYRxD2 (in), AD2 ~{UART1_DT}R/~{UART1}_~{RT}S (out), AD6 IICSCL (io), AD15 ~{UART0_R}I (in), AD16 ~{UART0_RT}S (out), AD20 PHYRxD3 (in), AD26 EMCMDIO[PHYMDIO] (io), AE3 ~{UART0_DS}R (in), AE7 IICSDA (io), AE16 UART0_Rx (in), AE17 UARTSerClk (in), AE18 ~{UART0}_~{DC}D (in), AE23 PHYRxD0 (in), AF2 ~{UART0_DT}R (out), AF3 UART0_Tx (out), AF20 PHYRxClk (in), AF23 PHYRxD1 (in), B1 PerErr (in), B3 ~{PerCS}0 (out), B4 PerAddr2 (io), B5 PerAddr3 (io), B6 PerAddr5 (io), B7 PerAddr9 (io), B8 PerAddr12 (io), B9 ~{PerCS}4[GPIO13] (io), B10 ~{PerCS5}[GPIO14] (io), B11 ~{PerCS7}[GPIO16] (io), B12 PerAddr21 (io), B13 PerAddr24 (io), B14 DMAAck2 (out), B15 DMAAck1 (out), C1 PerR/~{W} (io), C2 ~{PerOE} (out), C4 ~{PerCS}1[GPIO10] (io), C5 ~{PerCS}2[GPIO11] (io), C6 PerAddr6 (io), C7 PerAddr10 (io), C8 PerAddr13 (io), C9 PerAddr16 (io), C10 PerAddr18 (io), C11 DMAReq2 (in), C12 DMAAck3 (out), C14 PerAddr27 (io), C15 PerAddr30 (io), C16 DMAReq0 (in), D1 ~{PerWBE}3 (io), D2 ~{PerWBE}0 (io), D3 PerPar0 (io), D5 PerAddr0 (io), D6 PerAddr4 (io), D7 PerAddr7 (io), D8 PerAddr11 (io), D9 PerAddr14 (io), D10 PerAddr17 (io), D11 PerAddr20 (io), D12 PerAddr23 (io), D13 PerAddr22 (io), D14 DMAReq1 (in), D15 PerAddr31 (io), D16 DMAAck0 (out), D20 Reserved, E1 PerPar3 (io), E2 ~{PerWBE1} (io), E3 PerReady (in), E4 PerClk (out), E25 PHYTxClk (in), F2 ~{PerBLast} (io), F3 EOT0/TC0 (io), F4 ~{PerWBE}2 (io), G1 PerData29 (io), G2 EOT1/TC1 (io), G3 PerPar2 (io), G4 PerPar1 (io), H2 PerData30 (io), H3 PerData28 (io), H4 PerData31 (io), H24 EMCMDClk (out), J1 PerData23 (io), J2 PerData26 (io), J3 PerData25 (io), J4 PerData27 (io), J26 EMCTxD0 (out), K1 PerData20 (io), K3 PerData22 (io), K4 PerData24 (io), K23 EMCTxEn (out), K25 EMCTxErr (out), L2 PerData21 (io), L3 PerData18 (io), L4 PerData19 (io), L24 EMCTxD2 (out), L25 EMCTxD1 (out), M1 PerData12 (io), M2 PerData17 (io), M3 PerData14 (io), M4 PerData15 (io), N1 PerData11 (io), N2 PerData13 (io), N3 PerData10 (io), N4 PerData16 (io), P1 PerData9 (io), P2 PerData7 (io), P4 PerData5 (io), P25 EMCTxD3 (out), R1 PerData8 (io), R2 PerData4 (io), R3 BusReq (out), R4 PerData6 (io), T2 HoldPri (in), T3 ~{ExtRese}t (out), T4 PerData3 (io), U1 PerData2 (io), U2 HoldAck (out), U3 PerData1 (io), U4 PerData0 (io), U24 PHYRxErr (in), V1 HoldReq (in), V2 EOT2/TC2 (io), V23 IRQ1[GPIO18] (io), V24 PHYRxDV (in), V25 IRQ0[GPIO17] (io), W23 PHYCrS (in), W24 IRQ2[GPIO19] (io), W25 IRQ3[GPIO20] (io), Y1 EOT3/TC3 (io), Y3 ~{ExtAck} (out), Y4 ~{ExtReq} (in), Y23 Reserved, Y24 IRQ4[GPIO21] (io), Y25 IRQ5[GPIO22] (io), Y26 Reserved
part C pins: A1 GND (power), A2 GND (power), A6 GND (power), A11 GND (power), A16 GND (power), A19 GND (power), A21 GND (power), A26 GND (power), AA1 GND (power), AA5 OVDD (power), AA22 OVDD (power), AA26 GND (power), AB5 GND (power), AB6 OVDD (power), AB7 OVDD (power), AB8 OVDD (power), AB9 GND (power), AB10 VDD (power), AB11 VDD (power), AB12 VDD (power), AB13 GND (power), AB14 GND (power), AB15 VDD (power), AB16 VDD (power), AB17 VDD (power), AB18 GND (power), AB19 OVDD (power), AB20 OVDD (power), AB21 OVDD (power), AB22 GND (power), AC4 GND (power), AC23 GND (power), AD3 GND (power), AD14 OVDD (power), AD24 GND (power), AE1 GND (power), AE2 GND (power), AE10 OVDD (power), AE25 GND (power), AF1 GND (power), AF4 GND (power), AF6 GND (power), AF8 GND (power), AF11 GND (power), AF16 GND (power), AF21 GND (power), AF25 GND (power), AF26 GND (power), B2 GND (power), B17 OVDD (power), B25 GND (power), B26 GND (power), C3 GND (power), C13 OVDD (power), C24 GND (power), D4 GND (power), D23 GND (power), E5 GND (power), E6 OVDD (power), E7 OVDD (power), E8 OVDD (power), E9 GND (power), E10 VDD (power), E11 VDD (power), E12 VDD (power), E13 GND (power), E14 GND (power), E15 VDD (power), E16 VDD (power), E17 VDD (power), E18 GND (power), E19 OVDD (power), E20 OVDD (power), E21 OVDD (power), E22 GND (power), F1 GND (power), F5 OVDD (power), F22 OVDD (power), F26 GND (power), G5 OVDD (power), G22 OVDD (power), H1 GND (power), H5 OVDD (power), H22 OVDD (power), J5 GND (power), J22 GND (power), K2 OVDD (power), K5 VDD (power), K22 VDD (power), L1 GND (power), L5 VDD (power), L11 GND (power) "Thermal Balls", L12 GND (power) "Thermal Balls", L13 GND (power) "Thermal Balls", L14 GND (power) "Thermal Balls", L15 GND (power) "Thermal Balls", L16 GND (power) "Thermal Balls", L22 VDD (power), L26 GND (power), M5 VDD (power), M11 GND (power) "Thermal Balls", M12 GND (power) "Thermal Balls", M13 GND (power) "Thermal Balls", M14 GND (power) "Thermal Balls", M15 GND (power) "Thermal Balls", M16 GND (power) "Thermal Balls", M22 VDD (power), N5 GND (power), N11 GND (power) "Thermal Balls", N12 GND (power) "Thermal Balls", N13 GND (power) "Thermal Balls", N14 GND (power) "Thermal Balls", N15 GND (power) "Thermal Balls", N16 GND (power) "Thermal Balls", N22 GND (power), N24 OVDD (power), P3 OVDD (power), P5 GND (power), P11 GND (power) "Thermal Balls", P12 GND (power) "Thermal Balls", P13 GND (power) "Thermal Balls", P14 GND (power) "Thermal Balls", P15 GND (power) "Thermal Balls", P16 GND (power) "Thermal Balls", P22 GND (power), R5 VDD (power), R11 GND (power) "Thermal Balls", R12 GND (power) "Thermal Balls", R13 GND (power) "Thermal Balls", R14 GND (power) "Thermal Balls", R15 GND (power) "Thermal Balls", R16 GND (power) "Thermal Balls", R22 VDD (power), T1 GND (power), T5 VDD (power), T11 GND (power) "Thermal Balls", T12 GND (power) "Thermal Balls", T13 GND (power) "Thermal Balls", T14 GND (power) "Thermal Balls", T15 GND (power) "Thermal Balls", T16 GND (power) "Thermal Balls", T22 VDD (power), T26 GND (power), U5 VDD (power), U22 VDD (power), U25 OVDD (power), V5 GND (power), V22 GND (power), W5 OVDD (power), W22 OVDD (power), W26 GND (power), Y5 OVDD (power), Y22 OVDD (power)

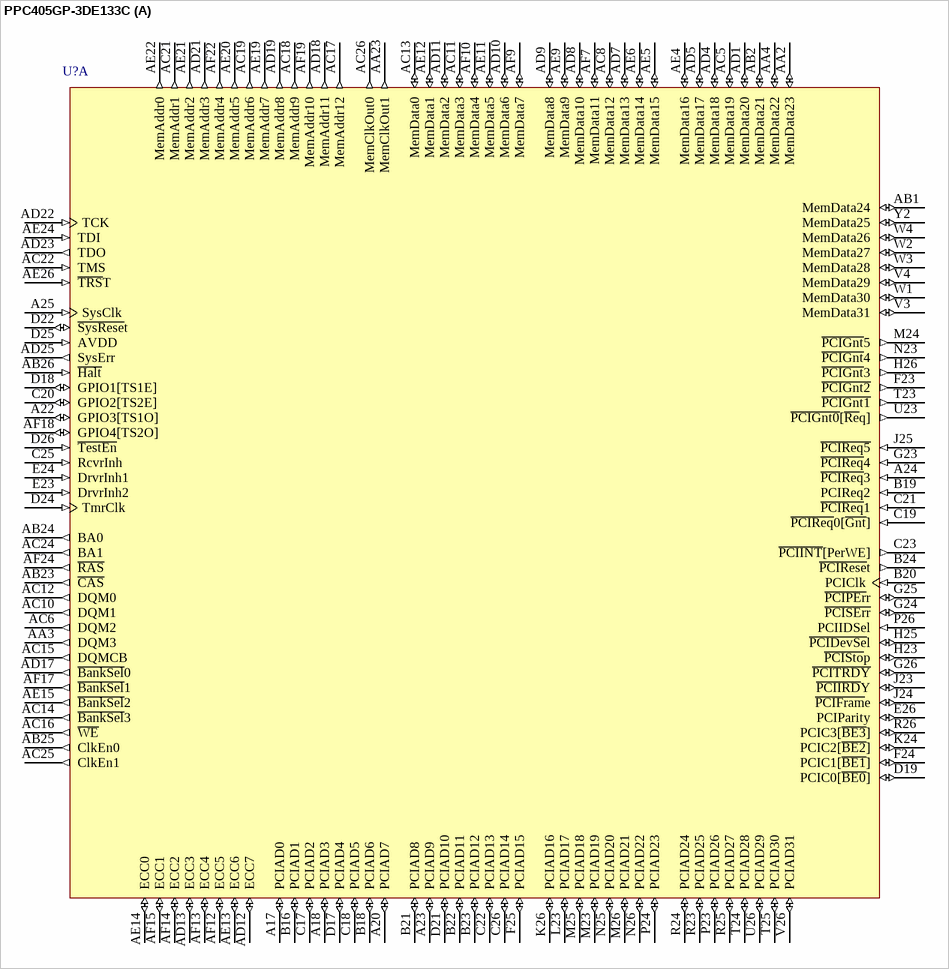
[diagram p50: symbol PPC405GP-3DE133C]

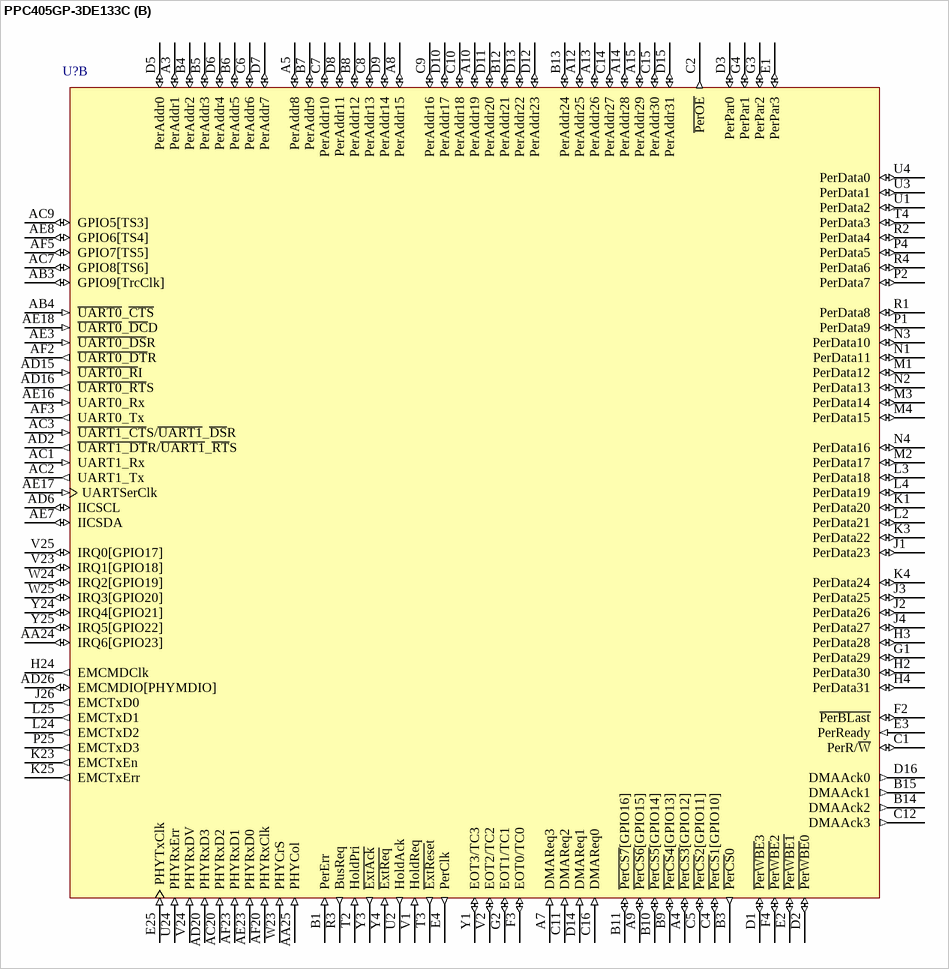
[diagram p51: symbol PPC405GP-3DE133C]

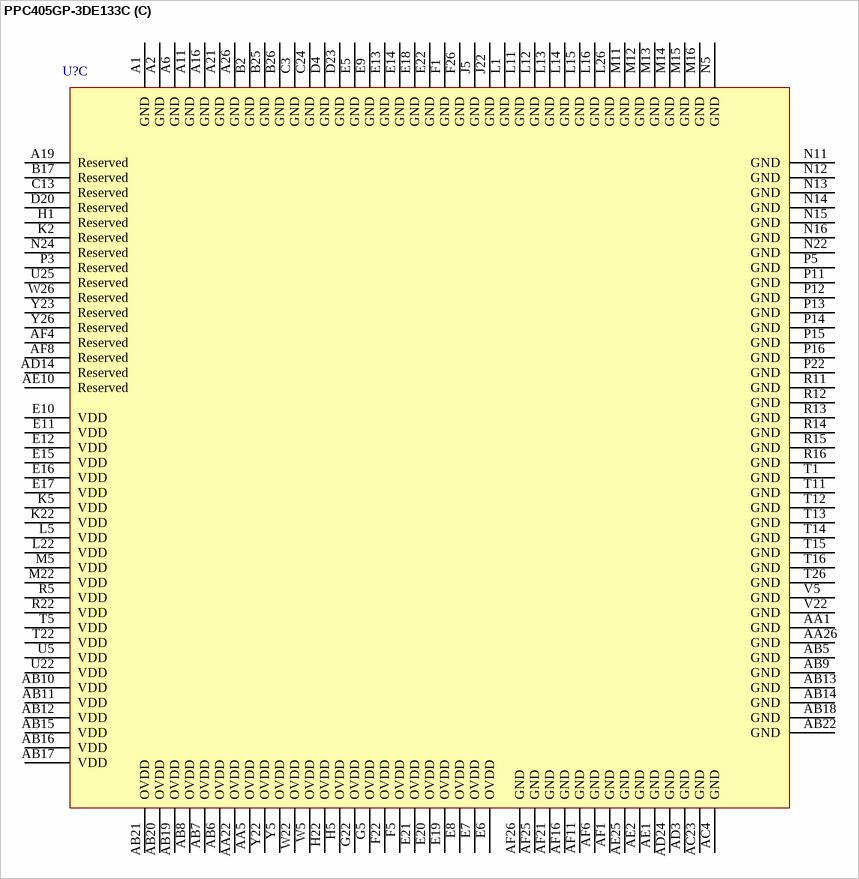
[diagram p52: symbol PPC405GP-3DE133C]

## PPC405GP-3DE133C
designator U?
PowerPC 405GP Embedded Processor, 133MHz, 27mm, 456 Ball E-PBGA; Published: 6-Oct-2005; LatestRevisionDate: 13-Apr-2006; LatestRevisionNote: IPC-7351 Footprint Added.; DatasheetVersion: rev2.01, Jan-2005; PackageVersion: Aug-2005; PackageReference: E-PBGA456_60; Publisher: Altium Limited; PackageDescription: 456-Ball Enhanced Plastic Ball Grid Array; ComponentLink1Description: Manufacturer Link; ComponentLink1URL: http://www.amcc.com/; ComponentLink2Description: Datasheet; ComponentLink2URL: https://www.amcc.com/MyAMCC/retrieveDocument/PowerPC/405GP_GPR/PPC405GP_DS2004__v2_01.pdf
footprint E-PBGA456_60 (BGA, 456-Leads, Body 27x27mm, Pitch 1mm)
3D model PPC405GP-E-PBGA456 (456-Ball Enhanced Plastic Ball Grid Array)
part A pins: A17 PCIAD0 (io), A18 PCIAD3 (io), A20 PCIAD7 (io), A22 GPIO3[TS1O] (io), A23 PCIAD9 (io), A24 ~{PCIReq}3 (in), A25 SysClk (in), AA2 MemData23 (io), AA3 DQM3 (out), AA4 MemData22 (io), AA23 MemClkOut1 (out), AB1 MemData24 (io), AB2 MemData21 (io), AB23 ~{CAS} (out), AB24 BA0 (out), AB25 ClkEn0 (out), AB26 ~{Halt} (in), AC5 MemData19 (io), AC6 DQM2 (out), AC8 MemData12 (io), AC10 DQM1 (out), AC11 MemData3 (io), AC12 DQM0 (out), AC13 MemData0 (io), AC14 ~{BankSel}3 (out), AC15 DQMCB (out), AC16 ~{WE} (out), AC17 MemAddr12 (out), AC18 MemAddr9 (out), AC19 MemAddr6 (out), AC21 MemAddr1 (out), AC22 TMS (in), AC24 BA1 (out), AC25 ClkEn1 (out), AC26 MemClkOut0 (out), AD1 MemData20 (io), AD4 MemData18 (io), AD5 MemData17 (io), AD7 MemData13 (io), AD8 MemData10 (io), AD9 MemData8 (io), AD10 MemData6 (io), AD11 MemData2 (io), AD12 ECC7 (io), AD13 ECC3 (io), AD17 ~{BankSel}0 (out), AD18 MemAddr11 (out), AD19 MemAddr8 (out), AD21 MemAddr3 (out), AD22 TCK (in), AD23 TDO (out), AD25 SysErr (out), AE4 MemData16 (io), AE5 MemData15 (io), AE6 MemData14 (io), AE9 MemData9 (io), AE11 MemData5 (io), AE12 MemData1 (io), AE13 ECC6 (io), AE14 ECC0 (io), AE15 ~{BankSel}2 (out), AE19 MemAddr7 (out), AE20 MemAddr5 (out), AE21 MemAddr2 (out), AE22 MemAddr0 (out), AE24 TDI (in), AE26 ~{TRS}T (in), AF7 MemData11 (io), AF9 MemData7 (io), AF10 MemData4 (io), AF12 ECC5 (io), AF13 ECC4 (io), AF14 ECC2 (io), AF15 ECC1 (io), AF17 ~{BankSel}1 (out), AF18 GPIO4[TS2O] (io), AF19 MemAddr10 (out), AF22 MemAddr4 (out), AF24 ~{RAS} (out), B16 PCIAD1 (io), B18 PCIAD6 (io), B19 PCIReq2 (in), B20 PCIClk (in), B21 PCIAD8 (io), B22 PCIAD11 (io), B23 PCIAD12 (io), B24 ~{PCIRese}t (out), C17 PCIAD2 (io), C18 PCIAD5 (io), C19 ~{PCIReq}0[~{Gnt}] (in), C20 GPIO2[TS2E] (io), C21 ~{PCIReq}1 (in), C22 PCIAD13 (io), C23 ~{PCIINT}[PerWE] (out), C25 RcvrInh (in), C26 PCIAD14 (io), D17 PCIAD4 (io), D18 GPIO1[TS1E] (io), D19 PCIC0[~{BE0}] (io), D21 PCIAD10 (io), D22 ~{SysRese}t (io), D24 TmrClk (in), D25 AVDD (in), D26 ~{TestEn} (in), E23 DrvrInh2 (in), E24 DrvrInh1 (in), E26 PCIParity (io), F23 ~{PCIGnt2} (out), F24 PCIC1[~{BE1}] (io), F25 PCIAD15 (io), G23 ~{PCIReq}4 (in), G24 ~{PCISErr} (io), G25 ~{PCIPEr}r (io), G26 ~{PCITRDY} (io), H23 ~{PCISto}p (io), H25 ~{PCIDevSe}l (io), H26 ~{PCIGnt}3 (out), J23 ~{PCIIRD}Y (io), J24 ~{PCIFram}e (io), J25 ~{PCIReq5} (in), K24 PCIC2[~{BE2}] (io), K26 PCIAD16 (io), L23 PCIAD17 (io), M23 PCIAD19 (io), M24 ~{PCIGnt}5 (out), M25 PCIAD18 (io), M26 PCIAD21 (io), N23 ~{PCIGnt}4 (out), N25 PCIAD20 (io), N26 PCIAD22 (io), P23 PCIAD26 (io), P24 PCIAD23 (io), P26 PCIIDSel (in), R23 PCIAD25 (io), R24 PCIAD24 (io), R25 PCIAD27 (io), R26 PCIC3[~{BE3}] (io), T23 ~{PCIGnt1} (out), T24 PCIAD28 (io), T25 PCIAD30 (io), U23 ~{PCIGnt0}[~{Re}q] (out), U26 PCIAD29 (io), V3 MemData31 (io), V4 MemData29 (io), V26 PCIAD31 (io), W1 MemData30 (io), W2 MemData27 (io), W3 MemData28 (io), W4 MemData26 (io), Y2 MemData25 (io)
part B pins: A3 PerAddr1 (io), A4 ~{PerCS3}[GPIO12] (io), A5 PerAddr8 (io), A7 DMAReq3 (in), A8 PerAddr15 (io), A9 ~{PerCS6}[GPIO15] (io), A10 PerAddr19 (io), A12 PerAddr25 (io), A13 PerAddr26 (io), A14 PerAddr28 (io), A15 PerAddr29 (io), AA24 IRQ6[GPIO23] (io), AA25 PHYCol (in), AB3 GPIO9[TrcClk] (io), AB4 ~{UART0}_~{CTS} (in), AC1 UART1_Rx (in), AC2 UART1_Tx (out), AC3 ~{UART1_CT}S/~{UART1}_~{DS}R (in), AC7 GPIO8[TS6] (io), AC9 GPIO5[TS3] (io), AC20 PHYRxD2 (in), AD2 ~{UART1_DT}R/~{UART1}_~{RT}S (out), AD6 IICSCL (io), AD15 ~{UART0_R}I (in), AD16 ~{UART0_RT}S (out), AD20 PHYRxD3 (in), AD26 EMCMDIO[PHYMDIO] (io), AE3 ~{UART0_DS}R (in), AE7 IICSDA (io), AE8 GPIO6[TS4] (io), AE16 UART0_Rx (in), AE17 UARTSerClk (in), AE18 ~{UART0}_~{DC}D (in), AE23 PHYRxD0 (in), AF2 ~{UART0_DT}R (out), AF3 UART0_Tx (out), AF5 GPIO7[TS5] (io), AF20 PHYRxClk (in), AF23 PHYRxD1 (in), B1 PerErr (in), B3 ~{PerCS}0 (out), B4 PerAddr2 (io), B5 PerAddr3 (io), B6 PerAddr5 (io), B7 PerAddr9 (io), B8 PerAddr12 (io), B9 ~{PerCS}4[GPIO13] (io), B10 ~{PerCS5}[GPIO14] (io), B11 ~{PerCS7}[GPIO16] (io), B12 PerAddr21 (io), B13 PerAddr24 (io), B14 DMAAck2 (out), B15 DMAAck1 (out), C1 PerR/~{W} (io), C2 ~{PerOE} (out), C4 ~{PerCS}1[GPIO10] (io), C5 ~{PerCS}2[GPIO11] (io), C6 PerAddr6 (io), C7 PerAddr10 (io), C8 PerAddr13 (io), C9 PerAddr16 (io), C10 PerAddr18 (io), C11 DMAReq2 (in), C12 DMAAck3 (out), C14 PerAddr27 (io), C15 PerAddr30 (io), C16 DMAReq0 (in), D1 ~{PerWBE}3 (io), D2 ~{PerWBE}0 (io), D3 PerPar0 (io), D5 PerAddr0 (io), D6 PerAddr4 (io), D7 PerAddr7 (io), D8 PerAddr11 (io), D9 PerAddr14 (io), D10 PerAddr17 (io), D11 PerAddr20 (io), D12 PerAddr23 (io), D13 PerAddr22 (io), D14 DMAReq1 (in), D15 PerAddr31 (io), D16 DMAAck0 (out), E1 PerPar3 (io), E2 ~{PerWBE1} (io), E3 PerReady (in), E4 PerClk (out), E25 PHYTxClk (in), F2 ~{PerBLast} (io), F3 EOT0/TC0 (io), F4 ~{PerWBE}2 (io), G1 PerData29 (io), G2 EOT1/TC1 (io), G3 PerPar2 (io), G4 PerPar1 (io), H2 PerData30 (io), H3 PerData28 (io), H4 PerData31 (io), H24 EMCMDClk (out), J1 PerData23 (io), J2 PerData26 (io), J3 PerData25 (io), J4 PerData27 (io), J26 EMCTxD0 (out), K1 PerData20 (io), K3 PerData22 (io), K4 PerData24 (io), K23 EMCTxEn (out), K25 EMCTxErr (out), L2 PerData21 (io), L3 PerData18 (io), L4 PerData19 (io), L24 EMCTxD2 (out), L25 EMCTxD1 (out), M1 PerData12 (io), M2 PerData17 (io), M3 PerData14 (io), M4 PerData15 (io), N1 PerData11 (io), N2 PerData13 (io), N3 PerData10 (io), N4 PerData16 (io), P1 PerData9 (io), P2 PerData7 (io), P4 PerData5 (io), P25 EMCTxD3 (out), R1 PerData8 (io), R2 PerData4 (io), R3 BusReq (out), R4 PerData6 (io), T2 HoldPri (in), T3 ~{ExtRese}t (out), T4 PerData3 (io), U1 PerData2 (io), U2 HoldAck (out), U3 PerData1 (io), U4 PerData0 (io), U24 PHYRxErr (in), V1 HoldReq (in), V2 EOT2/TC2 (io), V23 IRQ1[GPIO18] (io), V24 PHYRxDV (in), V25 IRQ0[GPIO17] (io), W23 PHYCrS (in), W24 IRQ2[GPIO19] (io), W25 IRQ3[GPIO20] (io), Y1 EOT3/TC3 (io), Y3 ~{ExtAck} (out), Y4 ~{ExtReq} (in), Y24 IRQ4[GPIO21] (io), Y25 IRQ5[GPIO22] (io)
part C pins: A1 GND (power), A2 GND (power), A6 GND (power), A11 GND (power), A16 GND (power), A19 Reserved, A21 GND (power), A26 GND (power), AA1 GND (power), AA5 OVDD (power), AA22 OVDD (power), AA26 GND (power), AB5 GND (power), AB6 OVDD (power), AB7 OVDD (power), AB8 OVDD (power), AB9 GND (power), AB10 VDD (power), AB11 VDD (power), AB12 VDD (power), AB13 GND (power), AB14 GND (power), AB15 VDD (power), AB16 VDD (power), AB17 VDD (power), AB18 GND (power), AB19 OVDD (power), AB20 OVDD (power), AB21 OVDD (power), AB22 GND (power), AC4 GND (power), AC23 GND (power), AD3 GND (power), AD14 Reserved, AD24 GND (power), AE1 GND (power), AE2 GND (power), AE10 Reserved, AE25 GND (power), AF1 GND (power), AF4 Reserved, AF6 GND (power), AF8 Reserved, AF11 GND (power), AF16 GND (power), AF21 GND (power), AF25 GND (power), AF26 GND (power), B2 GND (power), B17 Reserved, B25 GND (power), B26 GND (power), C3 GND (power), C13 Reserved, C24 GND (power), D4 GND (power), D20 Reserved, D23 GND (power), E5 GND (power), E6 OVDD (power), E7 OVDD (power), E8 OVDD (power), E9 GND (power), E10 VDD (power), E11 VDD (power), E12 VDD (power), E13 GND (power), E14 GND (power), E15 VDD (power), E16 VDD (power), E17 VDD (power), E18 GND (power), E19 OVDD (power), E20 OVDD (power), E21 OVDD (power), E22 GND (power), F1 GND (power), F5 OVDD (power), F22 OVDD (power), F26 GND (power), G5 OVDD (power), G22 OVDD (power), H1 Reserved, H5 OVDD (power), H22 OVDD (power), J5 GND (power), J22 GND (power), K2 Reserved, K5 VDD (power), K22 VDD (power), L1 GND (power), L5 VDD (power), L11 GND (power) "Thermal Balls", L12 GND (power) "Thermal Balls", L13 GND (power) "Thermal Balls", L14 GND (power) "Thermal Balls", L15 GND (power) "Thermal Balls", L16 GND (power) "Thermal Balls", L22 VDD (power), L26 GND (power), M5 VDD (power), M11 GND (power) "Thermal Balls", M12 GND (power) "Thermal Balls", M13 GND (power) "Thermal Balls", M14 GND (power) "Thermal Balls", M15 GND (power) "Thermal Balls", M16 GND (power) "Thermal Balls", M22 VDD (power), N5 GND (power), N11 GND (power) "Thermal Balls", N12 GND (power) "Thermal Balls", N13 GND (power) "Thermal Balls", N14 GND (power) "Thermal Balls", N15 GND (power) "Thermal Balls", N16 GND (power) "Thermal Balls", N22 GND (power), N24 Reserved, P3 Reserved, P5 GND (power), P11 GND (power) "Thermal Balls", P12 GND (power) "Thermal Balls", P13 GND (power) "Thermal Balls", P14 GND (power) "Thermal Balls", P15 GND (power) "Thermal Balls", P16 GND (power) "Thermal Balls", P22 GND (power), R5 VDD (power), R11 GND (power) "Thermal Balls", R12 GND (power) "Thermal Balls", R13 GND (power) "Thermal Balls", R14 GND (power) "Thermal Balls", R15 GND (power) "Thermal Balls", R16 GND (power) "Thermal Balls", R22 VDD (power), T1 GND (power), T5 VDD (power), T11 GND (power) "Thermal Balls", T12 GND (power) "Thermal Balls", T13 GND (power) "Thermal Balls", T14 GND (power) "Thermal Balls", T15 GND (power) "Thermal Balls", T16 GND (power) "Thermal Balls", T22 VDD (power), T26 GND (power), U5 VDD (power), U22 VDD (power), U25 Reserved, V5 GND (power), V22 GND (power), W5 OVDD (power), W22 OVDD (power), W26 Reserved, Y5 OVDD (power), Y22 OVDD (power), Y23 Reserved, Y26 Reserved

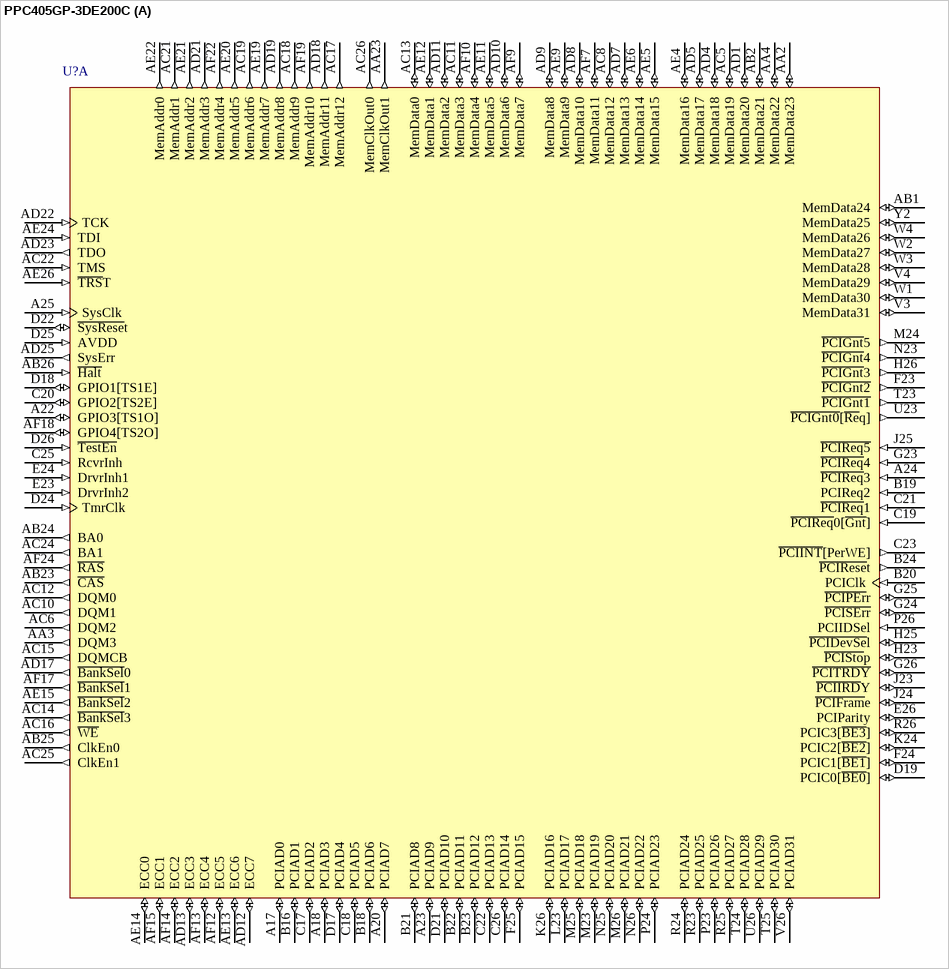
[diagram p53: symbol PPC405GP-3DE200C]

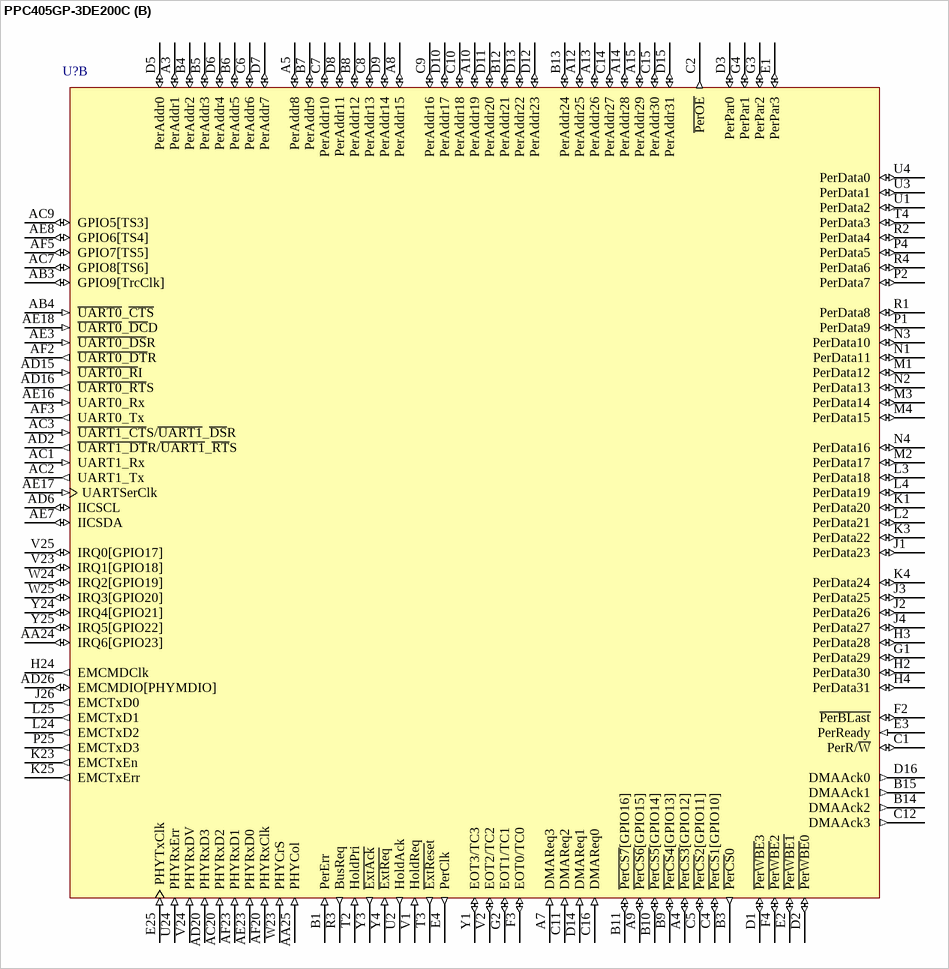
[diagram p54: symbol PPC405GP-3DE200C]

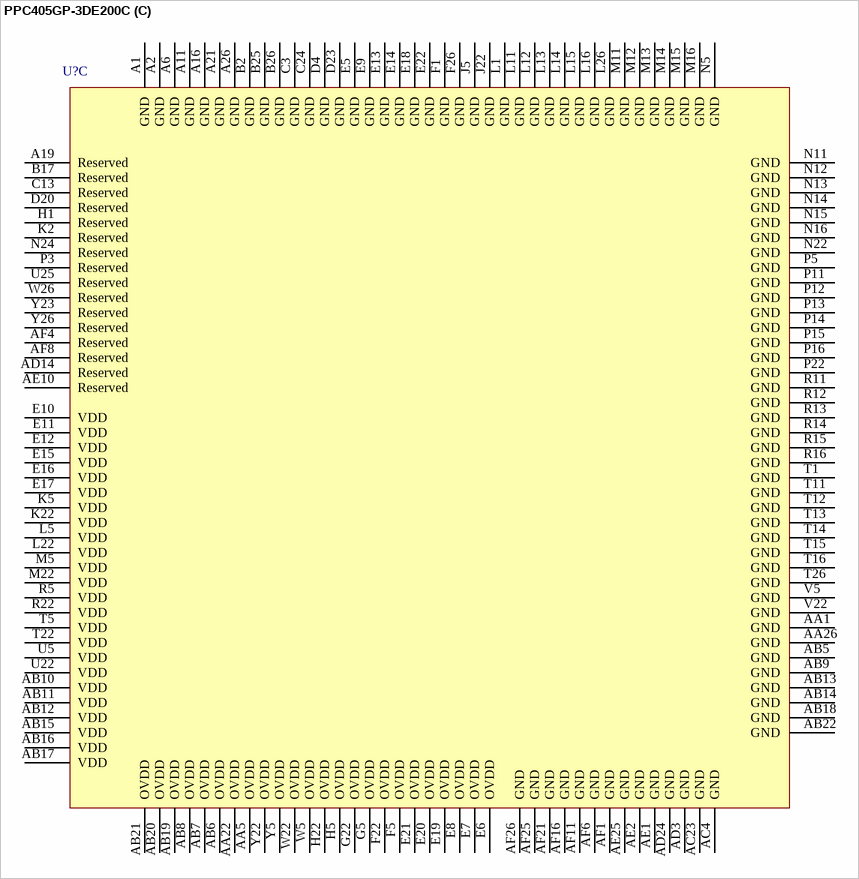
[diagram p55: symbol PPC405GP-3DE200C]